# Altium schematic symbol library IntegratedCircuit.SchLib: 91 symbols (part 1 of 2)
Pins are listed as number, name and electrical type; pins without a type are passive.

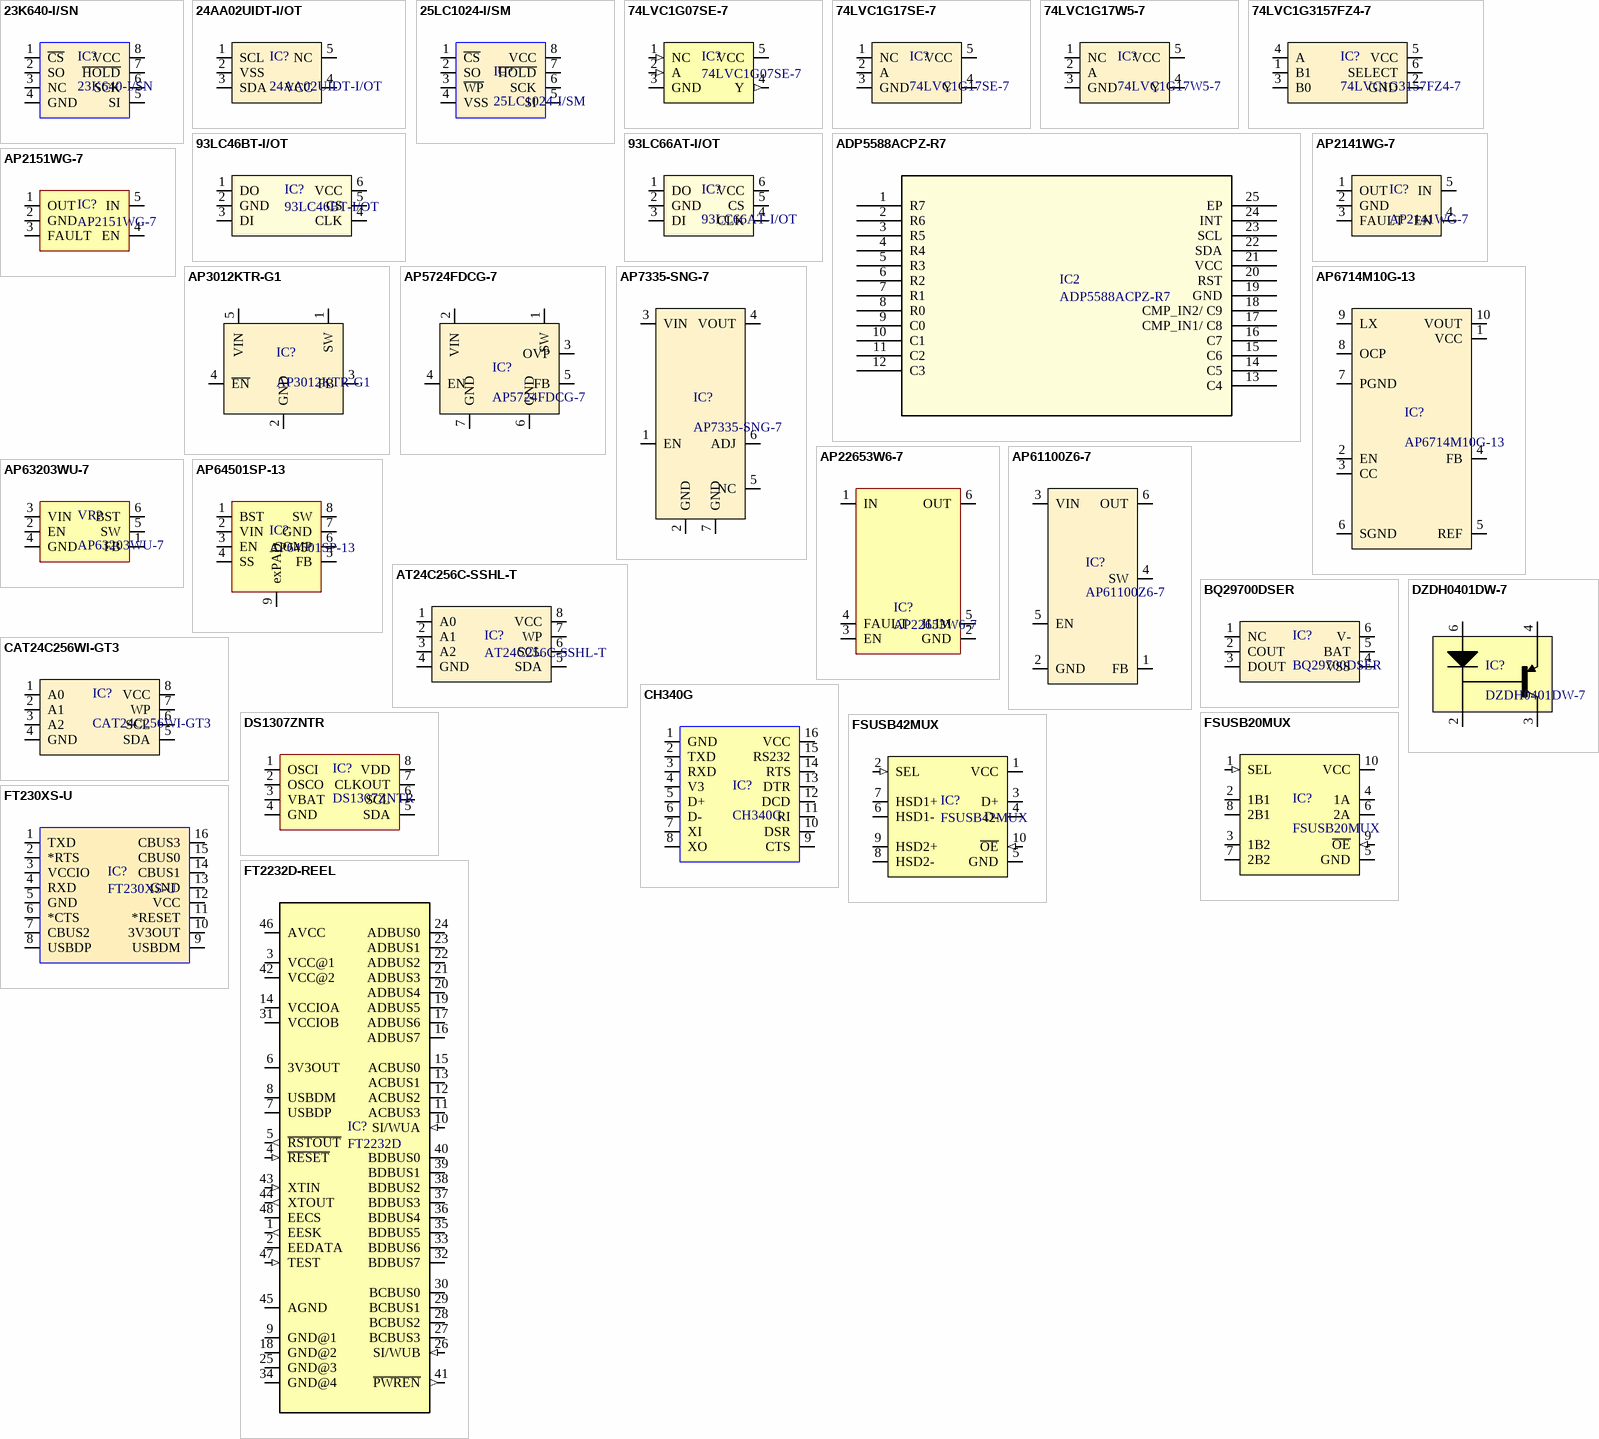
[diagram p0: symbols 23K640-I/SN to FT2232D-REEL]

## 23K640-I/SN
designator IC?
23K640 Series 2.7 V to 3.6 V 64 kbit SPI Bus Low-Power Serial SRAM - SOIC-8; Manufacturer: Microchip; Organization: 8192 x 8; Purpose Of Usage: BASIC; Supplier 1: Digi-Key; Manufacturer Part Number: 23K640-I/SN; RoHS: Yes; Category: INTEGRATED CIRCUITS; Mount: SMD; Case/Package: SOIC; Package Quantity: 100; Lead Free: Lead Free; Supplier Part Number 1: 23K640-I/SN-ND; Sub-Category: MEMORY- RAM; Stock ID: ??
footprint SOIC127P600X175-8N (SOIC, 8-Leads, Body 4.90x3.90mm, Pitch 1.27mm, IPC Medium Density)
pins: 1 ~{CS}, 2 SO, 3 NC, 4 GND, 5 SI, 6 SCK, 7 ~{HOLD}, 8 VCC (power)

## 24AA02UIDT-I/OT
designator IC?
24AA02 Series 2 Kbit (256 x 8) 5.5 V Surface Mount I2C Serial EEPROM - SOT-23-5; Manufacturer: Microchip; Organization: 256X8; Purpose Of Usage: BASIC; Supplier 1: Digi-Key; Manufacturer Part Number: 24AA02UIDT-I/OT; RoHS: Yes; Category: INTEGRATED CIRCUITS; Stock 1: 1978; Case/Package: SOT-23-5; Package Quantity: 3000; Lead Free: Lead Free; Supplier Part Number 1: 24AA02UIDT-I/OTTR-ND; Local Supplier: FUTURE; Mount: SMD; Price 10K: 0.25; Stock ID: ??; Sub-Category: MEMORY - EEPROM
footprint SOT23-5 (SOT23, 6-Leads, Body 2.73x2.80mm, Pitch 0.95mm, IPC Medium Density)
pins: 1 SCL, 2 VSS, 3 SDA, 4 VCC, 5 NC

## 25LC1024-I/SM
designator IC?
EEPROM, SERIAL, 1024KBIT, 20MHZ, 8SOIJ; Manufacturer: Microchip; Purpose Of Usage: BASIC; Supplier 1: Digi-Key; Manufacturer Part Number: 25LC1024-I/SM; RoHS: Yes; Stock 1: 8902; Mount: SMD; Case/Package: SOIC; Package Quantity: 90; Lead Free: Lead Free; Supplier Part Number 1: 25LC1024-I/SM-ND; Category: INTEGRATED CIRCUITS; Sub-Category: MEMORY - EEPROM; Stock ID: ??
footprint SOIJ8-M_MC-M
pins: 1 ~{CS}, 2 SO, 3 ~{WP}, 4 VSS, 5 SI, 6 SCK, 7 ~{HOLD}, 8 VCC

## 74LVC1G07SE-7
designator IC?
Buffer/Driver 1-CH Non-Inverting Open Drain CMOS 5-Pin SOT-353 T/R; Manufacturer: Diodes; Purpose Of Usage: BASIC; Supplier 1: Digi-Key; Supplier Part Number 1: 74LVC1G07SE-7DICT-ND; Manufacturer Part Number: 74LVC1G07SE-7; Stock 1: 16164; RoHS: Yes; Mount: SMD; Case/Package: SOT-353; Package Quantity: 3000; Lead Free: Lead Free; Category: INTEGRATED CIRCUITS; Sub-Category: LOGIC; Stock ID: ??
footprint SOT353
pins: 1 NC (in), 2 A (in), 3 GND (power), 4 Y (out), 5 VCC (power)

## 74LVC1G17SE-7
designator IC?
74LVC Series 5.5 V Surface Mount Single Schmitt Trigger Buffer - SOT-353; Manufacturer: Diodes; Purpose Of Usage: BASIC; Manufacturer Part Number: 74LVC1G17SE-7; RoHS: Yes; Category: INTEGRATED CIRCUITS; Case/Package: SOT-353; Lead Free: Lead Free; Local Supplier: FUTURE; Mount: SMD; Price 10K: 0.05; Stock ID: ??; Sub-Category: LOGIC; Supplier 1: Digi-Key; Supplier Part Number 1: 74LVC1G17SE-7CT-ND
footprint SOT353 (SOTFL, 6-Leads, Body 1.55x1.58mm, Pitch 0.50mm, IPC Medium Density)
pins: 1 NC, 2 A, 3 GND, 4 Y, 5 VCC

## 74LVC1G17W5-7
designator IC?
74LVC Series 1.65 to 5.5V Single Schmitt-Trigger Buffer SMT - SOT-25; Manufacturer: Diodes; Purpose Of Usage: BASIC; Supplier 1: Digi-Key; Manufacturer Part Number: 74LVC1G17W5-7; RoHS: Yes; Category: INTEGRATED CIRCUITS; Stock 1: 117000; Case/Package: SOT-23-5; Package Quantity: 3000; Lead Free: Lead Free; Supplier Part Number 1: 74LVC1G17W5-7TR-ND; Local Supplier: FUTURE; Mount: SMD; Price 10K: 0.05; Stock ID: ??; Sub-Category: LOGIC
footprint SOT23-5 (SOT23, 6-Leads, Body 2.73x2.80mm, Pitch 0.95mm, IPC Medium Density)
pins: 1 NC, 2 A, 3 GND, 4 Y, 5 VCC

## 74LVC1G3157FZ4-7
designator IC?
Analog Switch Single SPDT 6-Pin X2-DFN T/R; Manufacturer: Diodes; Purpose Of Usage: BASIC; Supplier 1: Digi-Key; Manufacturer Part Number: 74LVC1G3157FZ4-7; RoHS: Yes; Category: INTEGRATED CIRCUITS; Stock 1: 130000; Supplier Part Number 1: 74LVC1G3157FZ4-7DITR-ND; Case/Package: UDFN1410-6; Mount: SMD; Stock ID: ??; Sub-Category: ANALOG SWITCH; Lead Free: Lead Free
footprint X2-DFN1410-6 (SON, 6-Leads, Body 1.98x1.98mm, Pitch 0.65mm, Thermal Pad 1.60x0.91mm, IPC Medium Density)
pins: 1 B1, 2 GND, 3 B0, 4 A, 5 VCC, 6 SELECT

## 93LC46BT-I/OT
designator IC?
MICROCHIP - 93LC46BT-I/OT - EEPROM, Microwire, 1 Kbit, 64 x 16bit, Serial Microwire, 3 MHz, SOT-23, 6 Pins; Purpose Of Usage: BASIC; Supplier 1: Digi-Key; Supplier Part Number 1: 93LC46BT-I/OTCT-ND; Manufacturer: Microchip; Manufacturer Part Number: 93LC46BT-I/OT; Stock 1: 3299; RoHS: Yes; Mount: SMD; Case/Package: SOT-23; Package Quantity: 3000; Lead Free: Lead Free; Category: INTEGRATED CIRCUITS; Sub-Category: MEMORY - EEPROM; Stock ID: ??
footprint SOT 23-6
pins: 1 DO, 2 GND, 3 DI, 4 CLK, 5 CS, 6 VCC

## 93LC66AT-I/OT
designator IC?
Microwire Serial EEPROM Family, 2.5Vto 5.5V' 2 MHz, -40°Cto 125°C, SOT-23-6, RoHS; Manufacturer: Microchip; Organization: 512X8; Purpose Of Usage: BASIC; Supplier 1: Digi-Key; Manufacturer Part Number: 93LC66AT-I/OT; RoHS: Yes; Category: INTEGRATED CIRCUITS; Stock 1: 42000; Case/Package: SOT-23; Package Quantity: 3000; Lead Free: Lead Free; Supplier Part Number 1: 93LC66AT-I/OTTR-ND; Mount: SMD; Stock ID: ??; Sub-Category: MEMORY - EEPROM
footprint SOT23-6 (SOT23, 6-Leads, Body 2.73x2.80mm, Pitch 0.95mm, IPC Medium Density)
pins: 1 DO, 2 GND, 3 DI, 4 CLK, 5 CS, 6 VCC

## ADP5588ACPZ-R7
designator IC2
IC KEYPAD SCANNER GPIO PORT EXP; Manufacturer: Analog Devices; Purpose Of Usage: BASIC; Supplier 1: Digi-Key; Manufacturer Part Number: ADP5588ACPZ-R7; Stock 1: 100; RoHS: Yes; Mount: SMD; Case/Package: LFCSP EP; Package Quantity: 1500; Lead Free: Contains Lead; Supplier Part Number 1: ADP5588ACPZ-R7DKR-ND; Category: INTEGRATED CIRCUITS; Sub-Category: KEYPAD READER; Stock ID: ??
footprint CP_24_1
pins: 1 R7, 2 R6, 3 R5, 4 R4, 5 R3, 6 R2, 7 R1, 8 R0, 9 C0, 10 C1, 11 C2, 12 C3, 13 C4, 14 C5, 15 C6, 16 C7, 17 CMP_IN1/ C8, 18 CMP_IN2/ C9, 19 GND, 20 RST, 21 VCC (power), 22 SDA, 23 SCL, 24 INT, 25 EP

## AP2141WG-7
designator IC?
IC PWR SW USB 1CH 0.5A SOT-25-5; Manufacturer: Diodes; Purpose Of Usage: BASIC; Supplier 1: Avnet; Supplier Part Number 1: AP2141WG-7; Manufacturer Part Number: AP2141WG-7; Stock 1: 3000; RoHS: Yes; Mount: SMD; Case/Package: SOT-23-5; Package Quantity: 3000; Lead Free: Lead Free; Category: INTEGRATED CIRCUITS; Sub-Category: POWER SWITCH; Stock ID: ??
footprint SOT23-5
pins: 1 OUT, 2 GND, 3 FAULT, 4 EN, 5 IN

## AP2151WG-7
designator IC?
DIODES INC.         AP2151WG-7             Power Load Switch, Current Limited, Single High Side, Active High, 1 Output, 5.5V, 0.8A, SOT-25-5; Purpose Of Usage: BASIC; Supplier 1: Digi-Key; Manufacturer: Diodes; Manufacturer Part Number: AP2151WG-7; Stock 1: 5836; RoHS: Yes; Mount: SMD; Case/Package: SOT-23-5; Package Quantity: 3000; Lead Free: Lead Free; Category: INTEGRATED CIRCUITS; Sub-Category: POWER SWITCH; Stock ID: ??
footprint SOT23-5
pins: 1 OUT, 2 GND, 3 FAULT, 4 EN, 5 IN

## AP3012KTR-G1
designator IC?
Boost Switching Regulator IC Positive Adjustable 1.25V 1 Output 500mA (Switch) SC-74A, SOT-753; Manufacturer: Diodes; Purpose Of Usage: BASIC; Supplier 1: Digi-Key; Manufacturer Part Number: AP3012KTR-G1; RoHS: Yes; Category: INTEGRATED CIRCUITS; Stock 1: 356500; Case/Package: SOT-23-5; Package Quantity: 3000; Topology: BOOST; Lead Free: Lead Free; Supplier Part Number 1: AP3012KTR-G1DITR-ND; Local Supplier: FUTURE; Mount: SMD; Price 10K: 0.05; Stock ID: ??; Sub-Category: PMIC - DC/DC Switching Regulator
footprint SOT23-5 (SOT23, 6-Leads, Body 2.73x2.80mm, Pitch 0.95mm, IPC Medium Density)
pins: 1 SW, 2 GND, 3 FB, 4 ~{EN}, 5 VIN

## AP5724FDCG-7
designator IC?
AP5724 Series 2.7 to 5.5 V 1.2 MHz Boost SMT White LED Converter - DFN-6; Manufacturer: Diodes; Purpose Of Usage: BASIC; Supplier 1: Mouser; Manufacturer Part Number: AP5724FDCG-7; RoHS: Yes; Category: INTEGRATED CIRCUITS; Stock 1: 11765; Case/Package: DFN EP; Package Quantity: 3000; Lead Free: Lead Free; Supplier Part Number 1: 621-AP5724FDCG-7; Mount: SMD; Stock ID: ??; Sub-Category: PMIC - DC/DC Switching Regulator; Local Supplier: FUTURE; Price 10K: 0.27; Topology: BOOST
footprint U-DFN2020-6 TYPE-C (SON, 6-Leads, Body 1.98x1.98mm, Pitch 0.65mm, Thermal Pad 1.60x0.91mm, IPC Medium Density)
pins: 1 SW, 2 VIN, 3 OVP, 4 EN, 5 FB, 6 GND, 7 GND

## AP6714M10G-13
designator IC?
Conv DC-DC 0.9V to 5.5V Synchronous Step Up Single-Out 1.8V to 5.5V 1.6A 10-Pin MSOP T/R; Manufacturer: Diodes; Topology: BOOST; Purpose Of Usage: BASIC; Supplier 1: Digi-Key; Manufacturer Part Number: AP6714M10G-13; RoHS: Yes; Category: INTEGRATED CIRCUITS; Case/Package: MSOP; Package Quantity: 1; Lead Free: Lead Free; Supplier Part Number 1: AP6714M10GDITR-ND; Local Supplier: FUTURE; Mount: SMD; Price 10K: 0.25; Stock ID: ??; Sub-Category: PMIC - DC/DC Switching Regulator
footprint MSOP-10 (TSOP, 8-Leads, Body 2.95x2.95mm, Pitch 0.65mm, IPC Medium Density)
pins: 1 VCC, 2 EN, 3 CC, 4 FB, 5 REF, 6 SGND, 7 PGND, 8 OCP, 9 LX, 10 VOUT

## AP7335-SNG-7
designator IC?
LDO Regulator Pos 0.8V to 5V 0.3A 6-Pin DFN EP T/R; Manufacturer: Diodes; Purpose Of Usage: BASIC; Supplier 1: Digi-Key; Manufacturer Part Number: AP7335-SNG-7; RoHS: Yes; Category: INTEGRATED CIRCUITS; Case/Package: DFN EP; Package Quantity: 3000; Supplier Part Number 1: AP7335-SNG-7DI-ND; Lead Free: Lead Free; Mount: SMD; Stock ID: ??; Sub-Category: PMIC - LINEAR REGULATOR; Local Supplier: FUTURE; Price 10K: 0.0918; Topology: LDO
footprint U-DFN2020-6 TYPE-C (SON, 6-Leads, Body 1.98x1.98mm, Pitch 0.65mm, Thermal Pad 1.60x0.91mm, IPC Medium Density)
pins: 1 EN, 2 GND, 3 VIN, 4 VOUT, 5 NC, 6 ADJ, 7 GND

## AP22653W6-7
designator IC?
Power Switch/Driver 1:1 P-Channel 2.1A SOT-23-6; Manufacturer: Diodes; Purpose Of Usage: BASIC; Supplier 1: Digi-Key; Manufacturer Part Number: AP22653W6-7; Stock 1: 12659; RoHS: No; Supplier Part Number 1: 31-AP22653W6-7CT-ND; Category: INTEGRATED CIRCUITS; Sub-Category: POWER SWITCH; Mount: SMD; Case/Package: SOT-23-6; Lead Free: Lead Free; Stock ID: ??
footprint SOT23-6 (SOT23, 6-Leads, Body 2.73x2.80mm, Pitch 0.95mm, IPC Medium Density)
pins: 1 IN, 2 GND, 3 EN, 4 FAULT, 5 ILIM, 6 OUT

## AP61100Z6-7
designator IC?
Converter DC to DC Synchronous Buck 0.8V to 7V 3A 6-Pin SOT-563 T/R; Manufacturer: Diodes; Purpose Of Usage: BASIC; Supplier 1: Digi-Key; Manufacturer Part Number: AP61100Z6-7; RoHS: Yes; Category: INTEGRATED CIRCUITS; Stock 1: 237789; Supplier Part Number 1: 31-AP61100Z6-7DKR-ND; Case/Package: SOT563; Lead Free: Lead Free; Mount: SMD; Package Quantity: 3000; Stock ID: ??; Sub-Category: PMIC - DC/DC Switching Regulator; Local Supplier: FUTURE; Price 10K: 0.07; Topology: BUCK
footprint SOT563 (SOTFL, 6-Leads, Body 1.55x1.58mm, Pitch 0.50mm, IPC Medium Density)
pins: 1 FB, 2 GND, 3 VIN, 4 SW, 5 EN, 6 OUT

## AP63203WU-7
designator VR?
Manufacturer: Diodes; Purpose Of Usage: BASIC; Topology: BUCK; Supplier 1: Digi-Key; Manufacturer Part Number: AP63203WU-7; Stock 1: 2397; RoHS: No; Supplier Part Number 1: AP63203WU-7DICT-ND; Category: INTEGRATED CIRCUITS; Mount: SMD; Sub-Category: PMIC - DC/DC Switching Regulator; Case/Package: TSOT-26; Lead Free: Lead Free; Stock ID: ??
footprint TSOT26
pins: 1 FB, 2 EN, 3 VIN, 4 GND, 5 SW, 6 BST

## AP64501SP-13
designator IC?
Buck Switching Regulator IC Positive Adjustable 0.8V 1 Output 5A 8-SOIC (0.154", 3.90mm Width) Exposed Pad; Manufacturer: Diodes; Purpose Of Usage: BASIC; Supplier 1: Digi-Key; Manufacturer Part Number: AP64501SP-13; Stock 1: 17836; RoHS: No; Category: INTEGRATED CIRCUITS; Supplier Part Number 1: 31-AP64501SP-13CT-ND; Mount: SMD; Sub-Category: PMIC - DC/DC Switching Regulator; Case/Package: SO-8EP; Lead Free: Lead Free; Stock ID: ??; Topology: BUCK
footprint SO-8EP
pins: 1 BST, 2 VIN, 3 EN, 4 SS, 5 FB, 6 COMP, 7 GND, 8 SW, 9 exPAD

## AT24C256C-SSHL-T
designator IC?
EEPROM Serial-2Wire 256K-bit 32K x 8 1.8V/2.5V/3.3V/5V 8-Pin SOIC T/R; Manufacturer: Microchip / Atmel; Purpose Of Usage: BASIC; Supplier 1: Digi-Key; Manufacturer Part Number: AT24C256C-SSHL-T; Stock 1: 15972; RoHS: Yes; Mount: SMD; Case/Package: SOIC; Package Quantity: 1; Lead Free: Lead Free; Category: INTEGRATED CIRCUITS; Supplier Part Number 1: AT24C256C-SSHL-TCT-ND; Sub-Category: MEMORY - EEPROM; Stock ID: ??; LCSC Part Number: C6482
footprint SOIC127P600X175-8N (SOIC, 8-Leads, Body 4.90x3.90mm, Pitch 1.27mm, IPC Medium Density)
pins: 1 A0, 2 A1, 3 A2, 4 GND, 5 SDA, 6 SCL, 7 WP, 8 VCC

## BQ29700DSER
designator IC?
Li-Ion/Li Polymer Advanced Single-Cell Battery Protector IC Family 6-WSON -40 to 85; Manufacturer: Texas Instruments; Purpose Of Usage: BASIC; Supplier 1: Digi-Key; Manufacturer Part Number: BQ29700DSER; RoHS: Yes; Category: INTEGRATED CIRCUITS; Stock 1: 64646; Case/Package: WFDFN; Package Quantity: 3000; Lead Free: Lead Free; Supplier Part Number 1: 296-43985-1-ND; Local Supplier: TEXAS INS; Mount: SMD; Price 10K: 0.25; Stock ID: ??; Sub-Category: BATTERY MANAGEMENT
footprint WSON-6 (SON, 6-Leads, Body 1.98x1.98mm, Pitch 0.65mm, Thermal Pad 1.60x0.91mm, IPC Medium Density)
pins: 1 NC, 2 COUT, 3 DOUT, 4 VSS, 5 BAT, 6 V-

## CAT24C256WI-GT3
designator IC?
IC EEPROM 256KBIT 400KHZ 8SOIC; Manufacturer: ON Semiconductor; Purpose Of Usage: BASIC; Manufacturer Part Number: CAT24C256WI-GT3; RoHS: Yes; Category: INTEGRATED CIRCUITS; Case/Package: SOIC; LCSC Part Number: C79987; Lead Free: Lead Free; Local Supplier: FUTURE; Mount: SMD; Price 10K: 0.75; Stock ID: ??; Sub-Category: MEMORY - EEPROM; Supplier 1: Digi-Key; Supplier Part Number 1: CAT24C256WI-GT3OSCT-ND
footprint SOIC127P600X175-8N (SOIC, 8-Leads, Body 4.90x3.90mm, Pitch 1.27mm, IPC Medium Density)
pins: 1 A0, 2 A1, 3 A2, 4 GND, 5 SDA, 6 SCL, 7 WP, 8 VCC

## CH340G
designator IC?
IC-340 USB INTERFACE SO16; Manufacturer: WCH; Purpose Of Usage: BASIC; Category: INTEGRATED CIRCUITS; Sub-Category: USB to UART; Case/Package: SOIC; Mount: SMD; RoHS: NO; Lead Free: Contains Lead; Manufacturer Part Number: CH340G; Supplier 1: Özdisan; Supplier Part Number 1: CH340G; Stock ID: ??
footprint SOIC 16 (SOIC, 16-Leads, Body 9.90x3.90mm, Pitch 1.27mm, IPC Medium Density)
pins: 1 GND, 2 TXD, 3 RXD, 4 V3, 5 D+, 6 D-, 7 XI, 8 XO, 9 CTS, 10 DSR, 11 RI, 12 DCD, 13 DTR, 14 RTS, 15 RS232, 16 VCC

## DS1307ZNTR
designator IC?
IC RTC SERIAL 512K IND 8-SOIC; Manufacturer: Maxim; Purpose Of Usage: BASIC; Supplier 1: Digi-Key; Manufacturer Part Number: DS1307ZNTR; Stock 1: 0; RoHS: Yes; Mount: SMD; Case/Package: SOIC; Package Quantity: 2500; Lead Free: Lead Free; Supplier Part Number 1: DS1307ZN+T&R-ND; Category: INTEGRATED CIRCUITS; Sub-Category: REAL TIME CLOCK; Stock ID: ??
footprint SOIC127P600X175-8N (SOIC, 8-Leads, Body 4.90x3.90mm, Pitch 1.27mm, IPC Medium Density)
pins: 1 OSCI, 2 OSCO, 3 VBAT, 4 GND, 5 SDA, 6 SCL, 7 CLKOUT, 8 VDD

## DZDH0401DW-7
designator IC?
DZDH0401 Series 40 V 300 mA Surface Mount Ideal Diode Controller - SOT-363; Manufacturer: Diodes Inc.; Purpose Of Usage: BASIC; Supplier 1: Digi-Key; Manufacturer Part Number: DZDH0401DW-7; Stock 1: 856; Supplier Part Number 1: 31-DZDH0401DW-7DKR-ND; Case/Package: SOT-363; Category: INTEGRATED CIRCUITS; Lead Free: Lead Free; Local Supplier: FUTURE; Mount: SMD; Stock ID: ??; Sub-Category: OR-ING IDEAL DIODE CONTROLLER
footprint SOT363 (SOTFL, 6-Leads, Body 1.55x1.58mm, Pitch 0.50mm, IPC Medium Density)
pins: 2 K, 3 C, 4 E, 6 A

## FSUSB20MUX
designator IC?
FAIRCHILD SEMICONDUCTOR         FSUSB20MUX             USB Interface, Switch, USB 2.0, 3 V, 3.6 V, MSOP, 10 Pins; Manufacturer: ON Semiconductor / Fairchild; Purpose Of Usage: BASIC; Supplier 1: Digi-Key; Manufacturer Part Number: FSUSB20MUX; Stock 1: 7192; RoHS: Yes; Mount: SMD; Case/Package: MSOP; Package Quantity: 4000; Lead Free: Lead Free; Supplier Part Number 1: FSUSB20MUXCT-ND; Category: INTEGRATED CIRCUITS; Sub-Category: USB SWITCH; Stock ID: ??
footprint MSOP-10N
pins: 1 SEL (in), 2 1B1 (io), 3 1B2 (io), 4 1A (io), 5 GND (power), 6 2A (io), 7 2B2 (io), 8 2B1 (io), 9 ~{OE} (in), 10 VCC (power)

## FSUSB42MUX
designator IC?
ON SEMICONDUCTOR - FSUSB42MUX - Analogue Switch, UART, 2 Channels, DPDT, 4.5 ohm, 2.4V to 3.6V, MSOP, 10 Pins; Manufacturer: ON Semiconductor / Fairchild; Purpose Of Usage: BASIC; Supplier 1: Digi-Key; Manufacturer Part Number: FSUSB42MUX; Stock 1: 14606; RoHS: Yes; Mount: SMD; Case/Package: MSOP; Package Quantity: 1; Lead Free: Lead Free; Supplier Part Number 1: FSUSB42MUXCT-ND; Category: INTEGRATED CIRCUITS; Sub-Category: USB SWITCH; Stock ID: ??
footprint MSOP-10N
pins: 1 VCC (power), 2 SEL (in), 3 D+ (io), 4 D- (io), 5 GND (power), 6 HSD1- (io), 7 HSD1+ (io), 8 HSD2- (io), 9 HSD2+ (io), 10 ~{OE} (in)

## FT230XS-U
designator IC?
USB Interface IC USB to Basic Serial UART IC SSOP-16; Manufacturer: FTDI; Supplier 1: Digi-Key; Manufacturer Part Number: FT230XS-U; Stock 1: 4799; RoHS: Yes; Case/Package: SSOP; Package Quantity: 100; Lead Free: Lead Free; Category: INTEGRATED CIRCUITS; Supplier Part Number 1: 768-1154-5-ND; Sub-Category: USB to UART; Mount: SMD; Stock ID: ??; Purpose Of Usage: BASIC
footprint SSOP-16
pins: 1 TXD, 2 *RTS, 3 VCCIO, 4 RXD, 5 GND, 6 *CTS, 7 CBUS2, 8 USBDP, 9 USBDM, 10 3V3OUT, 11 *RESET, 12 VCC, 13 GND, 14 CBUS1, 15 CBUS0, 16 CBUS3

## FT2232D-REEL
designator IC?, comment FT2232D
USB-to-UART 2-CH 3.3V/5V 48-Pin LQFP; Manufacturer: FTDI; Manufacturer Part Number: FT2232D-REEL; Purpose Of Usage: BASIC; Supplier 1: Digi-Key; Stock 1: 17137; RoHS: Yes; Mount: SMD; Case/Package: LQFP; Package Quantity: 1000; Lead Free: Lead Free; Category: INTEGRATED CIRCUITS; Supplier Part Number 1: 768-1010-1-ND; Sub-Category: USB to UART; Stock ID: ??
footprint LQFP48
pins: 1 EESK (out), 2 EEDATA (io), 3 VCC@1 (power), 4 ~{RESET} (in), 5 ~{RSTOUT} (out), 6 3V3OUT (power), 7 USBDP (io), 8 USBDM (io), 9 GND@1 (power), 10 SI/WUA (in), 11 ACBUS3 (io), 12 ACBUS2 (io), 13 ACBUS1 (io), 14 VCCIOA (power), 15 ACBUS0 (io), 16 ADBUS7 (io), 17 ADBUS6 (io), 18 GND@2 (power), 19 ADBUS5 (io), 20 ADBUS4 (io), 21 ADBUS3 (io), 22 ADBUS2 (io), 23 ADBUS1 (io), 24 ADBUS0 (io), 25 GND@3 (power), 26 SI/WUB (in), 27 BCBUS3 (io), 28 BCBUS2 (io), 29 BCBUS1 (io), 30 BCBUS0 (io), 31 VCCIOB (power), 32 BDBUS7 (io), 33 BDBUS6 (io), 34 GND@4 (power), 35 BDBUS5 (io), 36 BDBUS4 (io), 37 BDBUS3 (io), 38 BDBUS2 (io), 39 BDBUS1 (io), 40 BDBUS0 (io), 41 ~{PWREN} (out), 42 VCC@2 (power), 43 XTIN (in), 44 XTOUT (out), 45 AGND (power), 46 AVCC (power), 47 TEST (in), 48 EECS (io)

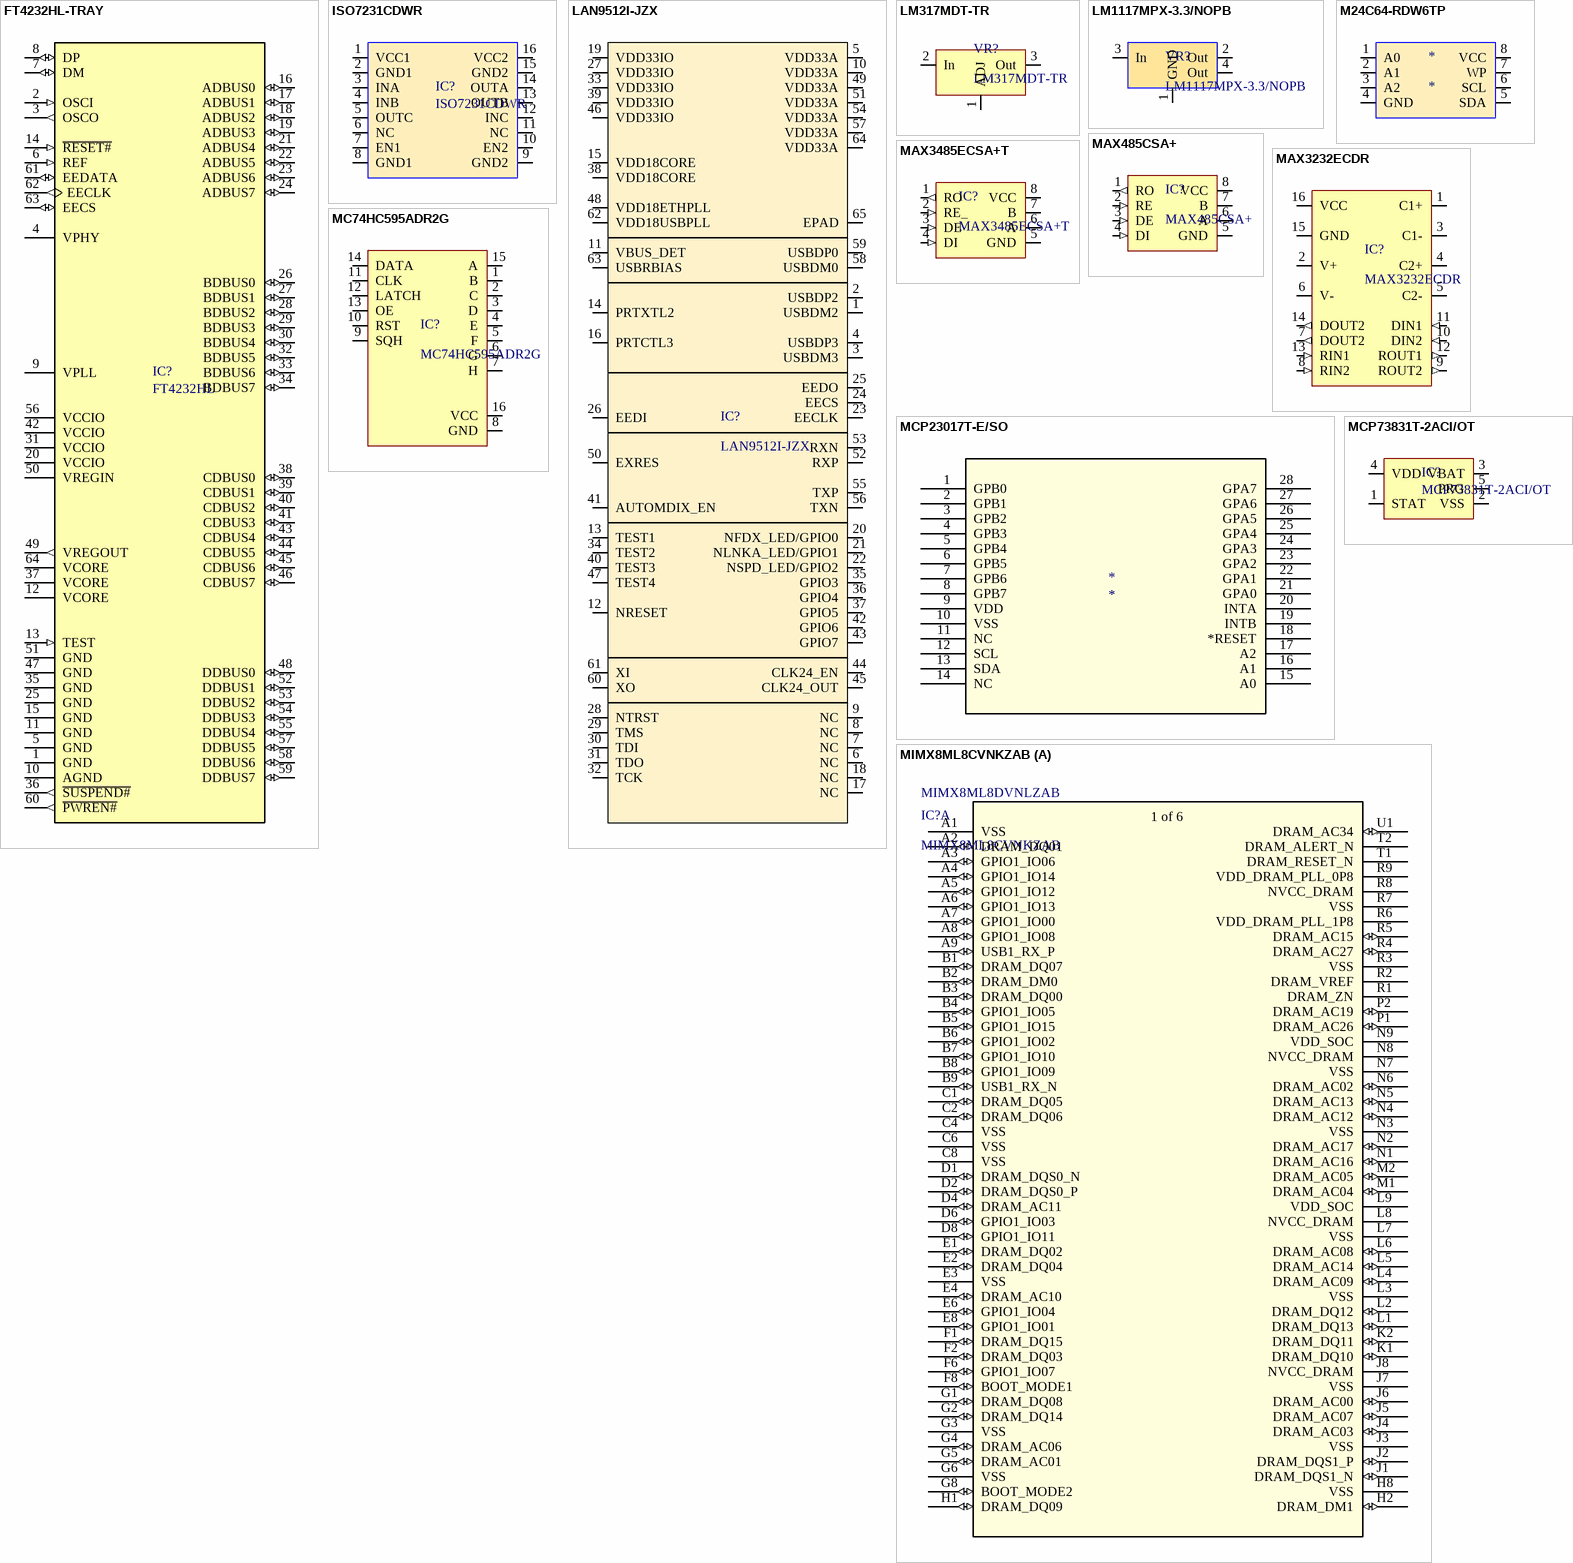
[diagram p1: symbols FT4232HL-TRAY to MIMX8ML8CVNKZAB]

## FT4232HL-TRAY
designator IC?, comment FT4232HL
IC USB HS QUAD UART/SYNC 64-LQFP; Manufacturer: FTDI; Manufacturer Part Number: FT4232HL-TRAY; Purpose Of Usage: BASIC; Supplier 1: Digi-Key; Stock 1: 1575; RoHS: Yes; Mount: SMD; Case/Package: LQFP; Package Quantity: 160; Supplier Part Number 1: 768-1309-ND; Category: INTEGRATED CIRCUITS; Sub-Category: USB to UART; Lead Free: Lead Free; Stock ID: ??
footprint QFP50P1200X1200X160-64N
pins: 1 GND (power), 2 OSCI (in), 3 OSCO (out), 4 VPHY (power), 5 GND (power), 6 REF (in), 7 DM (io), 8 DP (io), 9 VPLL (power), 10 AGND (power), 11 GND (power), 12 VCORE (power), 13 TEST (in), 14 ~{RESET#} (in), 15 GND (power), 16 ADBUS0 (io), 17 ADBUS1 (io), 18 ADBUS2 (io), 19 ADBUS3 (io), 20 VCCIO (power), 21 ADBUS4 (io), 22 ADBUS5 (io), 23 ADBUS6 (io), 24 ADBUS7 (io), 25 GND (power), 26 BDBUS0 (io), 27 BDBUS1 (io), 28 BDBUS2 (io), 29 BDBUS3 (io), 30 BDBUS4 (io), 31 VCCIO (power), 32 BDBUS5 (io), 33 BDBUS6 (io), 34 BDBUS7 (io), 35 GND (power), 36 ~{SUSPEND#} (out), 37 VCORE (power), 38 CDBUS0 (io), 39 CDBUS1 (io), 40 CDBUS2 (io), 41 CDBUS3 (io), 42 VCCIO (power), 43 CDBUS4 (io), 44 CDBUS5 (io), 45 CDBUS6 (io), 46 CDBUS7 (io), 47 GND (power), 48 DDBUS0 (io), 49 VREGOUT (out), 50 VREGIN (power), 51 GND (power), 52 DDBUS1 (io), 53 DDBUS2 (io), 54 DDBUS3 (io), 55 DDBUS4 (io), 56 VCCIO (power), 57 DDBUS5 (io), 58 DDBUS6 (io), 59 DDBUS7 (io), 60 ~{PWREN#} (out), 61 EEDATA (io), 62 EECLK (out), 63 EECS (io), 64 VCORE (power)

## ISO7231CDWR
designator IC?
Digital Isolator Logic 3-CH 25Mbps 16-Pin SOIC T/R; Manufacturer: Texas Instruments; Purpose Of Usage: BASIC; Supplier 1: Digi-Key; Manufacturer Part Number: ISO7231CDWR; Stock 1: 1295; RoHS: Yes; Case/Package: SOIC; Package Quantity: 2000; Lead Free: Lead Free; Supplier Part Number 1: 296-38966-1-ND; Category: INTEGRATED CIRCUITS; Mount: SMD; Sub-Category: ISOLATOR; Stock ID: ??
footprint DW16
pins: 1 VCC1, 2 GND1, 3 INA, 4 INB, 5 OUTC, 6 NC, 7 EN1, 8 GND1, 9 GND2, 10 EN2, 11 NC, 12 INC, 13 OUTB, 14 OUTA, 15 GND2, 16 VCC2

## LAN9512I-JZX
designator IC?
Microchip LAN9512I-JZX; Ethernet Controller 10/100 Mbits/s; 1.8V; 3.3V; 64-Pin QFN; Purpose Of Usage: BASIC; Supplier 1: Digi-Key; Manufacturer: Microchip; Manufacturer Part Number: LAN9512I-JZX; RoHS: Yes; Category: INTEGRATED CIRCUITS; Stock 1: 1672; Case/Package: QFN; Package Quantity: 260; Lead Free: Lead Free; Supplier Part Number 1: LAN9512I-JZX-ND; Local Supplier: AVNET-EBV; Mount: SMD; Price 10K: 5; Stock ID: ??; Sub-Category: ETHERNET INTERFACE ICs
footprint QFN64_9x9MC_MCH-M
pins: 1 USBDM2, 2 USBDP2, 3 USBDM3, 4 USBDP3, 5 VDD33A, 6 NC, 7 NC, 8 NC, 9 NC, 10 VDD33A, 11 VBUS_DET, 12 NRESET, 13 TEST1, 14 PRTXTL2, 15 VDD18CORE, 16 PRTCTL3, 17 NC, 18 NC, 19 VDD33IO, 20 NFDX_LED/GPIO0, 21 NLNKA_LED/GPIO1, 22 NSPD_LED/GPIO2, 23 EECLK, 24 EECS, 25 EEDO, 26 EEDI, 27 VDD33IO, 28 NTRST, 29 TMS, 30 TDI, 31 TDO, 32 TCK, 33 VDD33IO, 34 TEST2, 35 GPIO3, 36 GPIO4, 37 GPIO5, 38 VDD18CORE, 39 VDD33IO, 40 TEST3, 41 AUTOMDIX_EN, 42 GPIO6, 43 GPIO7, 44 CLK24_EN, 45 CLK24_OUT, 46 VDD33IO, 47 TEST4, 48 VDD18ETHPLL, 49 VDD33A, 50 EXRES, 51 VDD33A, 52 RXP, 53 RXN, 54 VDD33A, 55 TXP, 56 TXN, 57 VDD33A, 58 USBDM0, 59 USBDP0, 60 XO, 61 XI, 62 VDD18USBPLL, 63 USBRBIAS, 64 VDD33A, 65 EPAD

## LM317MDT-TR
designator VR?
STMICROELECTRONICS - LM317MDT-TR - ADJUSTABLE LINEAR REGULATOR, 1.2V TO 37V, DPAK-3; Purpose Of Usage: BASIC; Topology: LDO; Supplier 1: Digi-Key; Manufacturer: STMicroelectronics; Manufacturer Part Number: LM317MDT-TR; Stock 1: 89593; RoHS: Yes; Mount: SMD; Case/Package: TO-252; Package Quantity: 1; Lead Free: Lead Free; Supplier Part Number 1: 497-1574-1-ND; Category: INTEGRATED CIRCUITS; Sub-Category: PMIC - LINEAR REGULATOR; Stock ID: ??
footprint DPAK
pins: 1 ADJ, 2 In, 3 Out

## LM1117MPX-3.3/NOPB
designator VR?
TEXAS INSTRUMENTS   LM1117MPX-3.3/NOPB.   LINEAR REG, FIX, 3.3V, 800MA, SOT-223-4, FULL REEL; Purpose Of Usage: BASIC; Topology: LDO; Supplier 1: Digi-Key; Manufacturer: Texas Instruments; Manufacturer Part Number: LM1117MPX-3.3/NOPB; RoHS: Yes; Stock 1: 74620; Mount: SMD; Case/Package: SOT-223; Lead Free: Lead Free; Category: INTEGRATED CIRCUITS; Supplier Part Number 1: LM1117MPX-3.3/NOPBCT-ND; Sub-Category: PMIC - VOLTAGE REFERANCE; Stock ID: ??
footprint SOT223-3
pins: 1 GND, 2 Out, 3 In, 4 Out

## M24C64-RDW6TP
designator *
IC EEPROM 64KBIT 400KHZ 8TSSOP; Manufacturer: STMicroelectronics; Manufacturer Part Number: M24C64-RDW6TP; Purpose Of Usage: BASIC; RoHS: Yes; Category: INTEGRATED CIRCUITS; Supplier 1: Digi-Key; Supplier Part Number 1: 497-8647-1-ND; Case/Package: SOIC; Lead Free: Lead Free; Local Supplier: FUTURE; Mount: SMD; Stock ID: ??; Sub-Category: MEMORY - EEPROM
pins: 1 A0, 2 A1, 3 A2, 4 GND, 5 SDA, 6 SCL, 7 WP, 8 VCC

## MAX485CSA+
designator IC?
IC TXRX RS485/RS422 LOWPWR 8SOIC; Manufacturer: Maxim; Purpose Of Usage: BASIC; Supplier 1: Digi-Key; Manufacturer Part Number: MAX485CSA+; RoHS: Yes; Stock 1: 4088; Mount: SMD; Case/Package: SOIC; Package Quantity: 100; Lead Free: Lead Free; Supplier Part Number 1: MAX485CSA+-ND; Category: INTEGRATED CIRCUITS; Sub-Category: RS485 DRIVER; Stock ID: ??
footprint SOIC127P600X175-8N (SOIC, 8-Leads, Body 4.90x3.90mm, Pitch 1.27mm, IPC Medium Density)
pins: 1 RO (out), 2 RE (in), 3 DE (in), 4 DI (in), 5 GND (power), 6 A (io), 7 B (io), 8 VCC (power)

## MAX3232ECDR
designator IC?
IC RS232 3V5.5V 15KVESD 16-SOIC; Manufacturer: Texas Instruments; Purpose Of Usage: BASIC; Supplier 1: Digi-Key; Supplier Part Number 1: 296-19851-1-ND; Manufacturer Part Number: MAX3232ECDR; RoHS: Yes; Stock 1: 15857; Mount: SMD; Case/Package: SOIC; Package Quantity: 1; Lead Free: Lead Free; Category: INTEGRATED CIRCUITS; Sub-Category: RS232 to TTL; Stock ID: ??
footprint SO16
pins: 1 C1+, 2 V+, 3 C1-, 4 C2+, 5 C2-, 6 V-, 7 DOUT2 (out), 8 RIN2 (in), 9 ROUT2 (out), 10 DIN2 (in), 11 DIN1 (in), 12 ROUT1 (out), 13 RIN1 (in), 14 DOUT2 (out), 15 GND, 16 VCC

## MAX3485ECSA+T
designator IC?
IC TXRX RS485/422 10MBPS 8SOIC; Manufacturer: Maxim; Purpose Of Usage: BASIC; Supplier 1: Digi-Key; Supplier Part Number 1: MAX3485ECSA+CT-ND; Manufacturer Part Number: MAX3485ECSA+T; RoHS: Yes; Stock 1: 2261; Mount: SMD; Case/Package: SOIC; Package Quantity: 2500; Category: INTEGRATED CIRCUITS; Sub-Category: RS485 DRIVER; Lead Free: Lead Free; Stock ID: ??
footprint SOIC127P600X175-8N (SOIC, 8-Leads, Body 4.90x3.90mm, Pitch 1.27mm, IPC Medium Density)
pins: 1 RO (out), 2 RE_ (in), 3 DE (in), 4 DI (in), 5 GND (power), 6 A (io), 7 B (io), 8 VCC (power)

## MC74HC595ADR2G
designator IC?
ON SEMICONDUCTOR - MC74HC595ADR2G - 8 BIT SIPO/SISO SHIFT REGISTER SOIC16; Purpose Of Usage: BASIC; Supplier 1: Digi-Key; Manufacturer: ON Semiconductor; Manufacturer Part Number: MC74HC595ADR2G; Stock 1: 804; RoHS: Yes; Mount: SMD; Case/Package: SOIC; Package Quantity: 2500; Lead Free: Lead Free; Category: INTEGRATED CIRCUITS; Supplier Part Number 1: MC74HC595ADR2GOSCT-ND; Sub-Category: LOGIC; Stock ID: ??
footprint SO16
pins: 1 B, 2 C, 3 D, 4 E, 5 F, 6 G, 7 H, 8 GND, 9 SQH, 10 RST, 11 CLK, 12 LATCH, 13 OE, 14 DATA, 15 A, 16 VCC

## MCP23017T-E/SO
designator *
IC I/O EXPANDER I2C 16B 28SOIC; Manufacturer: Microchip; Manufacturer Part Number: MCP23017T-E/SO; Purpose Of Usage: BASIC; Supplier 1: Digi-Key; Stock 1: 9970; RoHS: Yes; Case/Package: SOIC; Package Quantity: 1600; Lead Free: Lead Free; Supplier Part Number 1: MCP23017T-E/SOCT-ND; Category: INTEGRATED CIRCUITS; Sub-Category: PORT EXPANDER; Mount: SMD; Stock ID: ??
footprint SOIC28-W_MC
pins: 1 GPB0, 2 GPB1, 3 GPB2, 4 GPB3, 5 GPB4, 6 GPB5, 7 GPB6, 8 GPB7, 9 VDD, 10 VSS, 11 NC, 12 SCL, 13 SDA, 14 NC, 15 A0, 16 A1, 17 A2, 18 *RESET, 19 INTB, 20 INTA, 21 GPA0, 22 GPA1, 23 GPA2, 24 GPA3, 25 GPA4, 26 GPA5, 27 GPA6, 28 GPA7

## MCP73831T-2ACI/OT
designator IC?
MCP73831 Series Single-Cell Li-Ion/Li-Polymer Battery Charge Controller SOT-23-5; Manufacturer: Microchip; Purpose Of Usage: BASIC; Topology: CC-CV; Supplier 1: Digi-Key; Manufacturer Part Number: MCP73831T-2ACI/OT; Stock 1: 24984; RoHS: Yes; Mount: SMD; Case/Package: SOT-23; Lead Free: Lead Free; Category: INTEGRATED CIRCUITS; Supplier Part Number 1: MCP73831T-2ACI/OTCT-ND; Sub-Category: PMIC - Battery Charger; Stock ID: ??
footprint SOT-23-5
pins: 1 STAT, 2 VSS, 3 VBAT, 4 VDD, 5 PRG

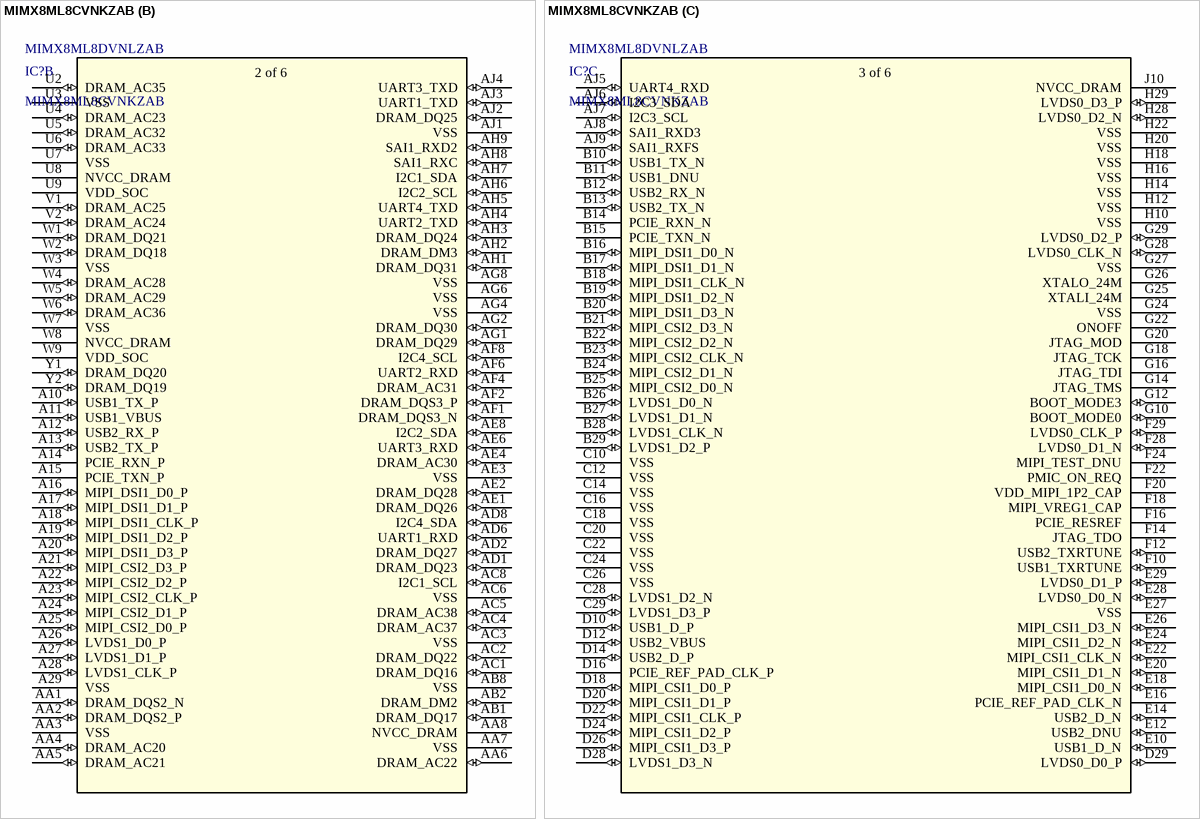
[diagram p2: symbol MIMX8ML8CVNKZAB]

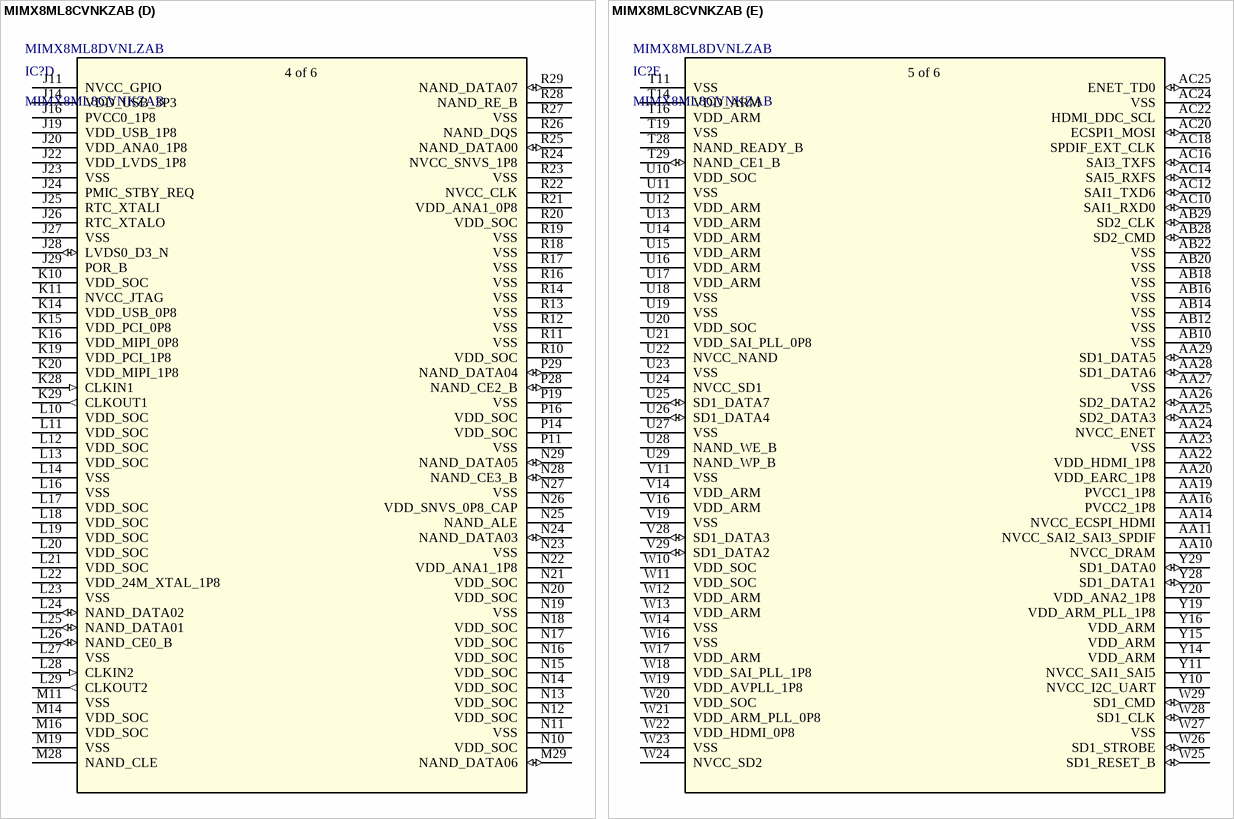
[diagram p3: symbol MIMX8ML8CVNKZAB]

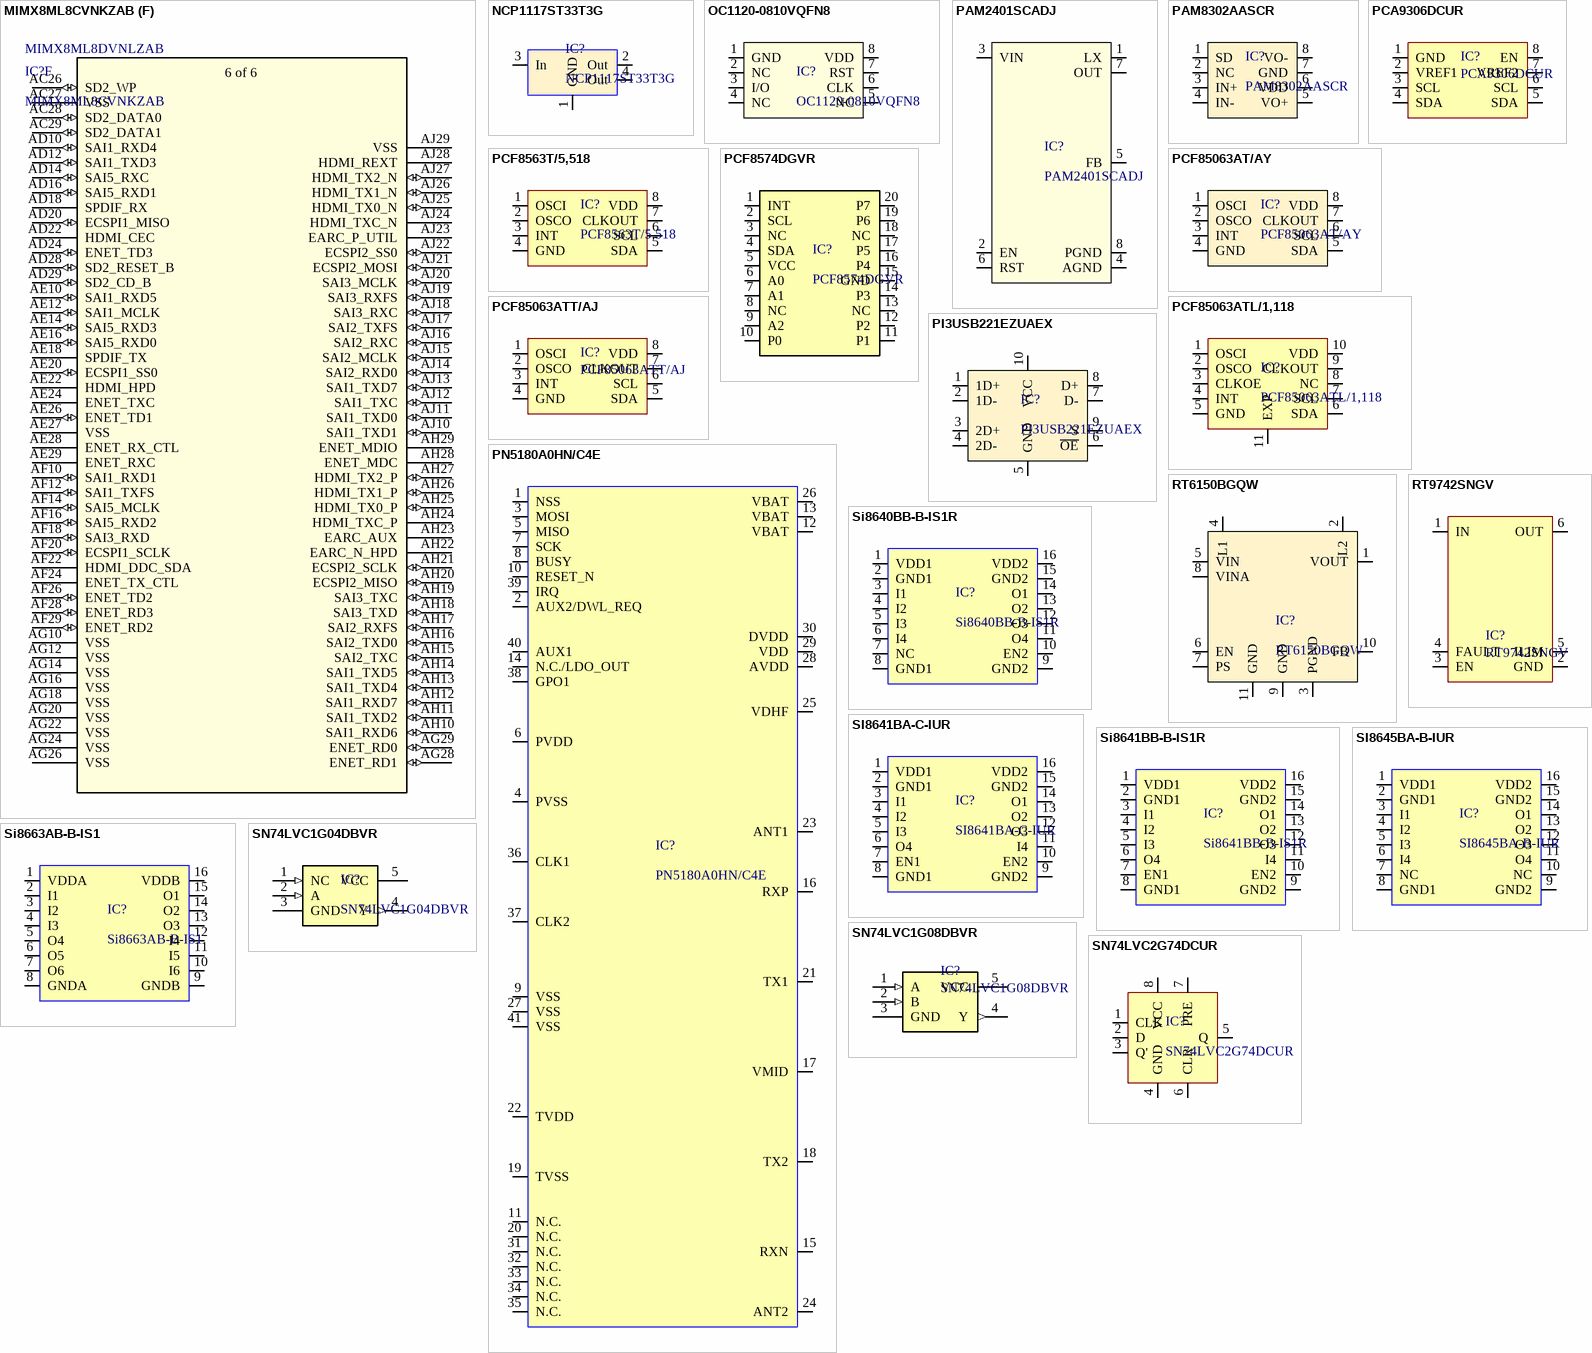
[diagram p4: symbols MIMX8ML8CVNKZAB to SN74LVC2G74DCUR]

## MIMX8ML8CVNKZAB
designator IC?  Supplier Part Number 1: MIMX8ML8DVNLZAB
i.MX 8M Plus Quad / Tray, Bakeable, Multiple in Drypack RoHS Compliant: Yes; Manufacturer: NXP Semiconductors; Purpose Of Usage: BASIC; Supplier 1: Avnet; Manufacturer Part Number: MIMX8ML8DVNLZAB; Category: INTEGRATED CIRCUITS; Sub-Category: MPU; Mount: SMD; RoHS: Yes; Case/Package: BGA; Lead Free: Lead Free; Stock ID: ??
footprint LFBGA548_SOT2047-1_NXP
part A pins: A1 VSS, A2 DRAM_DQ01 (io), A3 GPIO1_IO06 (io), A4 GPIO1_IO14 (io), A5 GPIO1_IO12 (io), A6 GPIO1_IO13 (io), A7 GPIO1_IO00 (io), A8 GPIO1_IO08 (io), A9 USB1_RX_P (io), B1 DRAM_DQ07 (io), B2 DRAM_DM0 (io), B3 DRAM_DQ00 (io), B4 GPIO1_IO05 (io), B5 GPIO1_IO15 (io), B6 GPIO1_IO02 (io), B7 GPIO1_IO10 (io), B8 GPIO1_IO09 (io), B9 USB1_RX_N (io), C1 DRAM_DQ05 (io), C2 DRAM_DQ06 (io), C4 VSS, C6 VSS, C8 VSS, D1 DRAM_DQS0_N (io), D2 DRAM_DQS0_P (io), D4 DRAM_AC11 (io), D6 GPIO1_IO03 (io), D8 GPIO1_IO11 (io), E1 DRAM_DQ02 (io), E2 DRAM_DQ04 (io), E3 VSS, E4 DRAM_AC10 (io), E6 GPIO1_IO04 (io), E8 GPIO1_IO01 (io), F1 DRAM_DQ15 (io), F2 DRAM_DQ03 (io), F6 GPIO1_IO07 (io), F8 BOOT_MODE1 (io), G1 DRAM_DQ08 (io), G2 DRAM_DQ14 (io), G3 VSS, G4 DRAM_AC06 (io), G5 DRAM_AC01 (io), G6 VSS, G8 BOOT_MODE2 (io), H1 DRAM_DQ09 (io), H2 DRAM_DM1 (io), H8 VSS, J1 DRAM_DQS1_N (io), J2 DRAM_DQS1_P (io), J3 VSS, J4 DRAM_AC03 (io), J5 DRAM_AC07 (io), J6 DRAM_AC00 (io), J7 VSS, J8 NVCC_DRAM (power), K1 DRAM_DQ10 (io), K2 DRAM_DQ11 (io), L1 DRAM_DQ13 (io), L2 DRAM_DQ12 (io), L3 VSS, L4 DRAM_AC09 (io), L5 DRAM_AC14 (io), L6 DRAM_AC08 (io), L7 VSS, L8 NVCC_DRAM (power), L9 VDD_SOC (power), M1 DRAM_AC04 (io), M2 DRAM_AC05 (io), N1 DRAM_AC16 (io), N2 DRAM_AC17 (io), N3 VSS, N4 DRAM_AC12 (io), N5 DRAM_AC13 (io), N6 DRAM_AC02 (io), N7 VSS, N8 NVCC_DRAM (power), N9 VDD_SOC (power), P1 DRAM_AC26 (io), P2 DRAM_AC19 (io), R1 DRAM_ZN, R2 DRAM_VREF (power), R3 VSS, R4 DRAM_AC27 (io), R5 DRAM_AC15 (io), R6 VDD_DRAM_PLL_1P8 (power), R7 VSS, R8 NVCC_DRAM (power), R9 VDD_DRAM_PLL_0P8 (power), T1 DRAM_RESET_N, T2 DRAM_ALERT_N, U1 DRAM_AC34 (io)
part B pins: A10 USB1_TX_P (io), A11 USB1_VBUS (io), A12 USB2_RX_P (io), A13 USB2_TX_P (io), A14 PCIE_RXN_P, A15 PCIE_TXN_P, A16 MIPI_DSI1_D0_P (io), A17 MIPI_DSI1_D1_P (io), A18 MIPI_DSI1_CLK_P (io), A19 MIPI_DSI1_D2_P (io), A20 MIPI_DSI1_D3_P (io), A21 MIPI_CSI2_D3_P (io), A22 MIPI_CSI2_D2_P (io), A23 MIPI_CSI2_CLK_P (io), A24 MIPI_CSI2_D1_P (io), A25 MIPI_CSI2_D0_P (io), A26 LVDS1_D0_P (io), A27 LVDS1_D1_P (io), A28 LVDS1_CLK_P (io), A29 VSS, AA1 DRAM_DQS2_N (io), AA2 DRAM_DQS2_P (io), AA3 VSS, AA4 DRAM_AC20 (io), AA5 DRAM_AC21 (io), AA6 DRAM_AC22 (io), AA7 VSS, AA8 NVCC_DRAM (power), AB1 DRAM_DQ17 (io), AB2 DRAM_DM2 (io), AB8 VSS, AC1 DRAM_DQ16 (io), AC2 DRAM_DQ22 (io), AC3 VSS, AC4 DRAM_AC37 (io), AC5 DRAM_AC38 (io), AC6 VSS, AC8 I2C1_SCL (io), AD1 DRAM_DQ23 (io), AD2 DRAM_DQ27 (io), AD6 UART1_RXD (io), AD8 I2C4_SDA (io), AE1 DRAM_DQ26 (io), AE2 DRAM_DQ28 (io), AE3 VSS, AE4 DRAM_AC30 (io), AE6 UART3_RXD (io), AE8 I2C2_SDA (io), AF1 DRAM_DQS3_N (io), AF2 DRAM_DQS3_P (io), AF4 DRAM_AC31 (io), AF6 UART2_RXD (io), AF8 I2C4_SCL (io), AG1 DRAM_DQ29 (io), AG2 DRAM_DQ30 (io), AG4 VSS, AG6 VSS, AG8 VSS, AH1 DRAM_DQ31 (io), AH2 DRAM_DM3 (io), AH3 DRAM_DQ24 (io), AH4 UART2_TXD (io), AH5 UART4_TXD (io), AH6 I2C2_SCL (io), AH7 I2C1_SDA (io), AH8 SAI1_RXC (io), AH9 SAI1_RXD2 (io), AJ1 VSS, AJ2 DRAM_DQ25 (io), AJ3 UART1_TXD (io), AJ4 UART3_TXD (io), U2 DRAM_AC35 (io), U3 VSS, U4 DRAM_AC23 (io), U5 DRAM_AC32 (io), U6 DRAM_AC33 (io), U7 VSS, U8 NVCC_DRAM (power), U9 VDD_SOC (power), V1 DRAM_AC25 (io), V2 DRAM_AC24 (io), W1 DRAM_DQ21 (io), W2 DRAM_DQ18 (io), W3 VSS, W4 DRAM_AC28 (io), W5 DRAM_AC29 (io), W6 DRAM_AC36 (io), W7 VSS, W8 NVCC_DRAM (power), W9 VDD_SOC (power), Y1 DRAM_DQ20 (io), Y2 DRAM_DQ19 (io)
part C pins: AJ5 UART4_RXD (io), AJ6 I2C3_SDA (io), AJ7 I2C3_SCL (io), AJ8 SAI1_RXD3 (io), AJ9 SAI1_RXFS (io), B10 USB1_TX_N (io), B11 USB1_DNU (io), B12 USB2_RX_N (io), B13 USB2_TX_N (io), B14 PCIE_RXN_N, B15 PCIE_TXN_N, B16 MIPI_DSI1_D0_N (io), B17 MIPI_DSI1_D1_N (io), B18 MIPI_DSI1_CLK_N (io), B19 MIPI_DSI1_D2_N (io), B20 MIPI_DSI1_D3_N (io), B21 MIPI_CSI2_D3_N (io), B22 MIPI_CSI2_D2_N (io), B23 MIPI_CSI2_CLK_N (io), B24 MIPI_CSI2_D1_N (io), B25 MIPI_CSI2_D0_N (io), B26 LVDS1_D0_N (io), B27 LVDS1_D1_N (io), B28 LVDS1_CLK_N (io), B29 LVDS1_D2_P (io), C10 VSS, C12 VSS, C14 VSS, C16 VSS, C18 VSS, C20 VSS, C22 VSS, C24 VSS, C26 VSS, C28 LVDS1_D2_N (io), C29 LVDS1_D3_P (io), D10 USB1_D_P (io), D12 USB2_VBUS (io), D14 USB2_D_P (io), D16 PCIE_REF_PAD_CLK_P, D18 MIPI_CSI1_D0_P (io), D20 MIPI_CSI1_D1_P (io), D22 MIPI_CSI1_CLK_P (io), D24 MIPI_CSI1_D2_P (io), D26 MIPI_CSI1_D3_P (io), D28 LVDS1_D3_N (io), D29 LVDS0_D0_P (io), E10 USB1_D_N (io), E12 USB2_DNU (io), E14 USB2_D_N (io), E16 PCIE_REF_PAD_CLK_N, E18 MIPI_CSI1_D0_N (io), E20 MIPI_CSI1_D1_N (io), E22 MIPI_CSI1_CLK_N (io), E24 MIPI_CSI1_D2_N (io), E26 MIPI_CSI1_D3_N (io), E27 VSS, E28 LVDS0_D0_N (io), E29 LVDS0_D1_P (io), F10 USB1_TXRTUNE (io), F12 USB2_TXRTUNE (io), F14 JTAG_TDO, F16 PCIE_RESREF, F18 MIPI_VREG1_CAP, F20 VDD_MIPI_1P2_CAP (power), F22 PMIC_ON_REQ, F24 MIPI_TEST_DNU, F28 LVDS0_D1_N (io), F29 LVDS0_CLK_P (io), G10 BOOT_MODE0 (io), G12 BOOT_MODE3 (io), G14 JTAG_TMS, G16 JTAG_TDI, G18 JTAG_TCK, G20 JTAG_MOD, G22 ONOFF, G24 VSS, G25 XTALI_24M, G26 XTALO_24M, G27 VSS, G28 LVDS0_CLK_N (io), G29 LVDS0_D2_P (io), H10 VSS, H12 VSS, H14 VSS, H16 VSS, H18 VSS, H20 VSS, H22 VSS, H28 LVDS0_D2_N (io), H29 LVDS0_D3_P (io), J10 NVCC_DRAM (power)
part D pins: J11 NVCC_GPIO (power), J14 VDD_USB_3P3 (power), J16 PVCC0_1P8 (power), J19 VDD_USB_1P8 (power), J20 VDD_ANA0_1P8 (power), J22 VDD_LVDS_1P8 (power), J23 VSS, J24 PMIC_STBY_REQ, J25 RTC_XTALI, J26 RTC_XTALO, J27 VSS, J28 LVDS0_D3_N (io), J29 POR_B, K10 VDD_SOC (power), K11 NVCC_JTAG (power), K14 VDD_USB_0P8 (power), K15 VDD_PCI_0P8 (power), K16 VDD_MIPI_0P8 (power), K19 VDD_PCI_1P8 (power), K20 VDD_MIPI_1P8 (power), K28 CLKIN1 (in), K29 CLKOUT1 (out), L10 VDD_SOC (power), L11 VDD_SOC (power), L12 VDD_SOC (power), L13 VDD_SOC (power), L14 VSS, L16 VSS, L17 VDD_SOC (power), L18 VDD_SOC (power), L19 VDD_SOC (power), L20 VDD_SOC (power), L21 VDD_SOC (power), L22 VDD_24M_XTAL_1P8 (power), L23 VSS, L24 NAND_DATA02 (io), L25 NAND_DATA01 (io), L26 NAND_CE0_B (io), L27 VSS, L28 CLKIN2 (in), L29 CLKOUT2 (out), M11 VSS, M14 VDD_SOC (power), M16 VDD_SOC (power), M19 VSS, M28 NAND_CLE, M29 NAND_DATA06 (io), N10 VDD_SOC (power), N11 VSS, N12 VDD_SOC (power), N13 VDD_SOC (power), N14 VDD_SOC (power), N15 VDD_SOC (power), N16 VDD_SOC (power), N17 VDD_SOC (power), N18 VDD_SOC (power), N19 VSS, N20 VDD_SOC (power), N21 VDD_SOC (power), N22 VDD_ANA1_1P8 (power), N23 VSS, N24 NAND_DATA03 (io), N25 NAND_ALE, N26 VDD_SNVS_0P8_CAP (power), N27 VSS, N28 NAND_CE3_B (io), N29 NAND_DATA05 (io), P11 VSS, P14 VDD_SOC (power), P16 VDD_SOC (power), P19 VSS, P28 NAND_CE2_B (io), P29 NAND_DATA04 (io), R10 VDD_SOC (power), R11 VSS, R12 VSS, R13 VSS, R14 VSS, R16 VSS, R17 VSS, R18 VSS, R19 VSS, R20 VDD_SOC (power), R21 VDD_ANA1_0P8 (power), R22 NVCC_CLK (power), R23 VSS, R24 NVCC_SNVS_1P8 (power), R25 NAND_DATA00 (io), R26 NAND_DQS, R27 VSS, R28 NAND_RE_B, R29 NAND_DATA07 (io)
part E pins: AA10 NVCC_DRAM (power), AA11 NVCC_SAI2_SAI3_SPDIF (power), AA14 NVCC_ECSPI_HDMI (power), AA16 PVCC2_1P8 (power), AA19 PVCC1_1P8 (power), AA20 VDD_EARC_1P8 (power), AA22 VDD_HDMI_1P8 (power), AA23 VSS, AA24 NVCC_ENET (power), AA25 SD2_DATA3 (io), AA26 SD2_DATA2 (io), AA27 VSS, AA28 SD1_DATA6 (io), AA29 SD1_DATA5 (io), AB10 VSS, AB12 VSS, AB14 VSS, AB16 VSS, AB18 VSS, AB20 VSS, AB22 VSS, AB28 SD2_CMD (io), AB29 SD2_CLK (io), AC10 SAI1_RXD0 (io), AC12 SAI1_TXD6 (io), AC14 SAI5_RXFS (io), AC16 SAI3_TXFS (io), AC18 SPDIF_EXT_CLK, AC20 ECSPI1_MOSI (io), AC22 HDMI_DDC_SCL, AC24 VSS, AC25 ENET_TD0 (io), T11 VSS, T14 VDD_ARM (power), T16 VDD_ARM (power), T19 VSS, T28 NAND_READY_B, T29 NAND_CE1_B (io), U10 VDD_SOC (power), U11 VSS, U12 VDD_ARM (power), U13 VDD_ARM (power), U14 VDD_ARM (power), U15 VDD_ARM (power), U16 VDD_ARM (power), U17 VDD_ARM (power), U18 VSS, U19 VSS, U20 VDD_SOC (power), U21 VDD_SAI_PLL_0P8 (power), U22 NVCC_NAND (power), U23 VSS, U24 NVCC_SD1 (power), U25 SD1_DATA7 (io), U26 SD1_DATA4 (io), U27 VSS, U28 NAND_WE_B, U29 NAND_WP_B, V11 VSS, V14 VDD_ARM (power), V16 VDD_ARM (power), V19 VSS, V28 SD1_DATA3 (io), V29 SD1_DATA2 (io), W10 VDD_SOC (power), W11 VDD_SOC (power), W12 VDD_ARM (power), W13 VDD_ARM (power), W14 VSS, W16 VSS, W17 VDD_ARM (power), W18 VDD_SAI_PLL_1P8 (power), W19 VDD_AVPLL_1P8 (power), W20 VDD_SOC (power), W21 VDD_ARM_PLL_0P8 (power), W22 VDD_HDMI_0P8 (power), W23 VSS, W24 NVCC_SD2 (power), W25 SD1_RESET_B (io), W26 SD1_STROBE (io), W27 VSS, W28 SD1_CLK (io), W29 SD1_CMD (io), Y10 NVCC_I2C_UART (power), Y11 NVCC_SAI1_SAI5 (power), Y14 VDD_ARM (power), Y15 VDD_ARM (power), Y16 VDD_ARM (power), Y19 VDD_ARM_PLL_1P8 (power), Y20 VDD_ANA2_1P8 (power), Y28 SD1_DATA1 (io), Y29 SD1_DATA0 (io)
part F pins: AC26 SD2_WP (io), AC27 VSS, AC28 SD2_DATA0 (io), AC29 SD2_DATA1 (io), AD10 SAI1_RXD4 (io), AD12 SAI1_TXD3 (io), AD14 SAI5_RXC (io), AD16 SAI5_RXD1 (io), AD18 SPDIF_RX, AD20 ECSPI1_MISO (io), AD22 HDMI_CEC, AD24 ENET_TD3 (io), AD28 SD2_RESET_B (io), AD29 SD2_CD_B (io), AE10 SAI1_RXD5 (io), AE12 SAI1_MCLK (io), AE14 SAI5_RXD3 (io), AE16 SAI5_RXD0 (io), AE18 SPDIF_TX, AE20 ECSPI1_SS0 (io), AE22 HDMI_HPD, AE24 ENET_TXC, AE26 ENET_TD1 (io), AE27 VSS, AE28 ENET_RX_CTL, AE29 ENET_RXC, AF10 SAI1_RXD1 (io), AF12 SAI1_TXFS (io), AF14 SAI5_MCLK (io), AF16 SAI5_RXD2 (io), AF18 SAI3_RXD (io), AF20 ECSPI1_SCLK (io), AF22 HDMI_DDC_SDA, AF24 ENET_TX_CTL, AF26 ENET_TD2 (io), AF28 ENET_RD3 (io), AF29 ENET_RD2 (io), AG10 VSS, AG12 VSS, AG14 VSS, AG16 VSS, AG18 VSS, AG20 VSS, AG22 VSS, AG24 VSS, AG26 VSS, AG28 ENET_RD1 (io), AG29 ENET_RD0 (io), AH10 SAI1_RXD6 (io), AH11 SAI1_TXD2 (io), AH12 SAI1_RXD7 (io), AH13 SAI1_TXD4 (io), AH14 SAI1_TXD5 (io), AH15 SAI2_TXC (io), AH16 SAI2_TXD0 (io), AH17 SAI2_RXFS (io), AH18 SAI3_TXD (io), AH19 SAI3_TXC (io), AH20 ECSPI2_MISO (io), AH21 ECSPI2_SCLK (io), AH22 EARC_N_HPD, AH23 EARC_AUX, AH24 HDMI_TXC_P, AH25 HDMI_TX0_P (io), AH26 HDMI_TX1_P (io), AH27 HDMI_TX2_P (io), AH28 ENET_MDC, AH29 ENET_MDIO, AJ10 SAI1_TXD1 (io), AJ11 SAI1_TXD0 (io), AJ12 SAI1_TXC (io), AJ13 SAI1_TXD7 (io), AJ14 SAI2_RXD0 (io), AJ15 SAI2_MCLK (io), AJ16 SAI2_RXC (io), AJ17 SAI2_TXFS (io), AJ18 SAI3_RXC (io), AJ19 SAI3_RXFS (io), AJ20 SAI3_MCLK (io), AJ21 ECSPI2_MOSI (io), AJ22 ECSPI2_SS0 (io), AJ23 EARC_P_UTIL, AJ24 HDMI_TXC_N, AJ25 HDMI_TX0_N (io), AJ26 HDMI_TX1_N (io), AJ27 HDMI_TX2_N (io), AJ28 HDMI_REXT, AJ29 VSS
part A text: 1 of 6
part B text: 2 of 6
part C text: 3 of 6
part D text: 4 of 6
part E text: 5 of 6
part F text: 6 of 6

## NCP1117ST33T3G
designator IC?
IC REG LDO 3.3V 1A SOT223; Manufacturer: ON Semiconductor; Purpose Of Usage: BASIC; Supplier 1: Digi-Key; Manufacturer Part Number: NCP1117ST33T3G; RoHS: Yes; Category: INTEGRATED CIRCUITS; Mount: SMD; Case/Package: SOT-223; Package Quantity: 1; Lead Free: Lead Free; Supplier Part Number 1: NCP1117ST33T3GOSCT-ND; Sub-Category: PMIC - LINEAR REGULATOR; Stock ID: ??; Topology: LDO
footprint SOT223-3 (SOT223, 4-Leads, Body 6.50x7.00mm (avg), Pitch 2.30mm, IPC Medium Density)
pins: 1 GND, 2 Out, 3 In, 4 Out

## OC1120-0810VQFN8
designator IC?
eSIM; Manufacturer: Infineon; Purpose Of Usage: BASIC; Manufacturer Part Number: OC1120-0810VQFN8; RoHS: No; Supplier Part Number 1: OC1120-0810VQFN8; Case/Package: PG-VQFN-8-4; Category: INTEGRATED CIRCUITS; Lead Free: Lead Free; Mount: SMD; Stock ID: ??; Sub-Category: eSIM; Supplier 1: Future
footprint PG-VQFN-8-4 (SOIC, 8-Leads, Body 4.90x3.90mm, Pitch 1.27mm, IPC Medium Density)
pins: 1 GND, 2 NC, 3 I/O, 4 NC, 5 NC, 6 CLK, 7 RST, 8 VDD

## PAM2401SCADJ
designator IC?
IC REG BOOST ADJ 3A SYNC 8MSOP; Manufacturer: Diodes; Purpose Of Usage: BASIC; Manufacturer Part Number: PAM2401SCADJ; RoHS: Yes; Category: INTEGRATED CIRCUITS; Case/Package: MSOP; Lead Free: Lead Free; Local Supplier: OZDISAN; Mount: SMD; Price 10K: 0.75; Stock ID: ??; Sub-Category: PMIC - DC/DC Switching Regulator; Supplier 1: Digi-Key; Supplier Part Number 1: PAM2401SCADJDICT-ND; Topology: BOOST
footprint MSOP-08 (TSOP, 8-Leads, Body 2.95x2.95mm, Pitch 0.65mm, IPC Medium Density)
pins: 1 LX, 2 EN, 3 VIN, 4 AGND, 5 FB, 6 RST, 7 OUT, 8 PGND

## PAM8302AASCR
designator IC?
IC AMP AUDIO 2.5W CLASS D 8MSOP; Manufacturer: Diodes; Purpose Of Usage: BASIC; Supplier 1: Digi-Key; Manufacturer Part Number: PAM8302AASCR; RoHS: Yes; Sub-Category: AMPLIFIER-AUDIO; Stock 1: 126713; Case/Package: MSOP; Package Quantity: 2500; Lead Free: Lead Free; Supplier Part Number 1: PAM8302AASCRDICT-ND; Category: INTEGRATED CIRCUITS; Mount: SMD; Stock ID: ??; Local Supplier: FUTURE; Price 10K: 0.17
footprint MSOP-08 (TSOP, 8-Leads, Body 2.95x2.95mm, Pitch 0.65mm, IPC Medium Density)
pins: 1 SD, 2 NC, 3 IN+, 4 IN-, 5 VO+ (power), 6 VDD (power), 7 GND (power), 8 VO- (power)

## PCA9306DCUR
designator IC?
TEXAS INSTRUMENTS - PCA9306DCUR - 2 BIT VOLTAGE LEVEL TRANSLATOR VSSOP8; Purpose Of Usage: BASIC; Supplier 1: Digi-Key; Supplier Part Number 1: 296-17988-1-ND; Manufacturer: Texas Instruments; Manufacturer Part Number: PCA9306DCUR; Stock 1: 19235; RoHS: Yes; Case/Package: VSSOP; Package Quantity: 1; Lead Free: Lead Free; Category: INTEGRATED CIRCUITS; Sub-Category: LEVEL SHIFTER; Mount: SMD; Stock ID: ??
footprint SOP50P310X90-8N
pins: 1 GND, 2 VREF1, 3 SCL, 4 SDA, 5 SDA, 6 SCL, 7 VREF2, 8 EN

## PCF8563T/5,518
designator IC?
Real Time Clock Serial 8-Pin SO T/R; Manufacturer: NXP Semiconductors; Purpose Of Usage: BASIC; Supplier 1: Digi-Key; Manufacturer Part Number: PCF8563T/5,518; Stock 1: 3911; RoHS: Yes; Mount: SMD; Case/Package: SOIC; Package Quantity: 2500; Lead Free: Lead Free; Category: INTEGRATED CIRCUITS; Supplier Part Number 1: 568-6650-1-ND; Sub-Category: REAL TIME CLOCK; Stock ID: ??
footprint SOIC127P600X175-8N (SOIC, 8-Leads, Body 4.90x3.90mm, Pitch 1.27mm, IPC Medium Density)
pins: 1 OSCI, 2 OSCO, 3 INT, 4 GND, 5 SDA, 6 SCL, 7 CLKOUT, 8 VDD

## PCF8574DGVR
designator IC?
8-bit 2.5- to 5.5-V I2C/SMBus I/O expander with interrupt 20-TVSOP -40 to 85; Manufacturer: Texas Instruments; Purpose Of Usage: BASIC; Supplier 1: Digi-Key; Manufacturer Part Number: PCF8574DGVR; Stock 1: 34; Mount: SMD; Case/Package: TFSOP; Package Quantity: 1; Lead Free: Lead Free; Supplier Part Number 1: 296-17364-1-ND; Category: INTEGRATED CIRCUITS; Sub-Category: PORT EXPANDER; RoHS: Yes; Stock ID: ??
footprint DGV20
pins: 1 INT, 2 SCL, 3 NC, 4 SDA, 5 VCC, 6 A0, 7 A1, 8 NC, 9 A2, 10 P0, 11 P1, 12 P2, 13 NC, 14 P3, 15 GND, 16 P4, 17 P5, 18 NC, 19 P6, 20 P7

## PCF85063AT/AY
designator IC?
IC RTC CLK/CALENDAR I2C 8SO; Manufacturer: NXP Semiconductors; Purpose Of Usage: BASIC; Manufacturer Part Number: PCF85063AT/AY; RoHS: Yes; Category: INTEGRATED CIRCUITS; Case/Package: SOIC; Min Operating Temperature: -40°C; Max Operating Temperature: 85°C; Lead Free: Lead Free; LCSC Part Number: C2669637; Mount: SMD; Stock ID: ??; Sub-Category: REAL TIME CLOCK; Supplier 1: Digi-Key; Supplier Part Number 1: 568-12403-1-ND
footprint SOIC127P600X175-8N (SOIC, 8-Leads, Body 4.90x3.90mm, Pitch 1.27mm, IPC Medium Density)
pins: 1 OSCI, 2 OSCO, 3 INT, 4 GND, 5 SDA, 6 SCL, 7 CLKOUT, 8 VDD

## PCF85063ATL/1,118
designator IC?
PCF85063ATL/1,118  REAL TIME CLOCK/CALENDAR, BINARY, HXSON; Manufacturer: NXP Semiconductors; Purpose Of Usage: BASIC; Supplier 1: Digi-Key; Manufacturer Part Number: PCF85063ATL/1,118; Stock 1: 43945; RoHS: Yes; Mount: SMD; Case/Package: DFN EP; Package Quantity: 4000; Lead Free: Lead Free; Supplier Part Number 1: 568-10235-1-ND; Category: INTEGRATED CIRCUITS; Sub-Category: REAL TIME CLOCK; Stock ID: ??
footprint DFN2626-10
pins: 1 OSCI, 2 OSCO, 3 CLKOE, 4 INT, 5 GND, 6 SDA, 7 SCL, 8 NC, 9 CLKOUT, 10 VDD, 11 EXP

## PCF85063ATT/AJ
designator IC?
Real time clock, TSSOP-8,; Manufacturer: NXP Semiconductors; Purpose Of Usage: BASIC; Supplier 1: Digi-Key; Supplier Part Number 1: 568-12404-1-ND; Manufacturer Part Number: PCF85063ATT/AJ; Stock 1: 34322; RoHS: Yes; Mount: SMD; Case/Package: TSSOP; Lead Free: Lead Free; Category: INTEGRATED CIRCUITS; Sub-Category: REAL TIME CLOCK; Stock ID: ??
footprint SOT505-1
pins: 1 OSCI, 2 OSCO, 3 INT, 4 GND, 5 SDA, 6 SCL, 7 CLKOUT, 8 VDD

## PI3USB221EZUAEX
designator IC?
Analog Multiplexer Single 1: 2 10-Pin UQFN T/R; Manufacturer: Diodes Inc.; Purpose Of Usage: BASIC; Supplier 1: Digi-Key; Manufacturer Part Number: PI3USB221EZUAEX; Category: INTEGRATED CIRCUITS; Supplier Part Number 1: PI3USB221EZUAEXDITR-ND; Case/Package: UDFN2015-10; Lead Free: Lead Free; Mount: SMD; RoHS: Yes; Stock ID: ??; Sub-Category: USB SWITCH
footprint UQFN2015-10 (SON, 6-Leads, Body 1.98x1.98mm, Pitch 0.65mm, Thermal Pad 1.60x0.91mm, IPC Medium Density)
pins: 1 1D+, 2 1D-, 3 2D+, 4 2D-, 5 GND, 6 ~{OE}, 7 D-, 8 D+, 9 S, 10 VCC

## PN5180A0HN/C4E
designator IC?
NFC Read/Write 13.56 MHz 2.7V to 5.5V 40-Pin HVQFN Tray; Manufacturer: NXP Semiconductors; Purpose Of Usage: BASIC; Supplier 1: Digi-Key; Manufacturer Part Number: PN5180A0HN/C4E; RoHS: Yes; Supplier Part Number 1: 568-PN5180A0HN/C4E-ND; Category: INTEGRATED CIRCUITS; Sub-Category: NFC Driver; Case/Package: QFN; Lead Free: Lead Free; Mount: SMD; Stock ID: ??; Local Supplier: AVNET; Price 10K: 2.7
footprint HVQFN40 SOT618-1 (QFN, 40-Leads, Body 6.00x6.00mm, Pitch 0.50mm, Thermal Pad 4.10x4.10mm, IPC Medium Density)
pins: 1 NSS, 2 AUX2/DWL_REQ, 3 MOSI, 4 PVSS, 5 MISO, 6 PVDD, 7 SCK, 8 BUSY, 9 VSS, 10 RESET_N, 11 N.C., 12 VBAT, 13 VBAT, 14 N.C./LDO_OUT, 15 RXN, 16 RXP, 17 VMID, 18 TX2, 19 TVSS, 20 N.C., 21 TX1, 22 TVDD, 23 ANT1, 24 ANT2, 25 VDHF, 26 VBAT, 27 VSS, 28 AVDD, 29 VDD, 30 DVDD, 31 N.C., 32 N.C., 33 N.C., 34 N.C., 35 N.C., 36 CLK1, 37 CLK2, 38 GPO1, 39 IRQ, 40 AUX1, 41 VSS

## RT6150BGQW
designator IC?
RT6150B Series 1.8 V 800 mA 1 Out ADJ Buck-Boost Switching Reg-10-WDFN; Manufacturer: Richtek; Purpose Of Usage: BASIC; Supplier 1: Digi-Key; Manufacturer Part Number: RT6150BGQW; RoHS: Yes; Category: INTEGRATED CIRCUITS; Stock 1: 6000; Topology: Buck-Boost; Lead Free: Lead Free; Supplier Part Number 1: 1028-1260-2-ND; Case/Package: WSON-10; Local Supplier: FUTURE; Mount: SMD; Package Quantity: 10; Price 10K: 0.35; Stock ID: ??; Sub-Category: PMIC - DC/DC Switching Regulator
footprint WSON-10
pins: 1 VOUT, 2 L2, 3 PGND, 4 L1, 5 VIN, 6 EN, 7 PS, 8 VINA, 9 GND, 10 FB, 11 GND

## RT9742SNGV
designator IC?
Power Switch/Driver 1:1 N-Channel 500mA SOT-23-3; Manufacturer: Diodes; Manufacturer Part Number: AP22653W6-7; Purpose Of Usage: BASIC; Supplier 1: Digi-Key; Stock 1: 12659; RoHS: No; Supplier Part Number 1: RT9742SNGVCT-ND; Category: INTEGRATED CIRCUITS; Sub-Category: POWER SWITCH; Mount: SMD; Case/Package: SOT-23-6; Lead Free: Lead Free; Stock ID: ??
footprint SOT23-6
pins: 1 IN, 2 GND, 3 EN, 4 FAULT, 5 ILIM, 6 OUT

## Si8640BB-B-IS1R
designator IC?
Digital Isolators Quad Ch 1.0kV Isltr 150M 4/0 NB SOIC16; Manufacturer: Silicon Labs; Purpose Of Usage: BASIC; Supplier 1: Digi-Key; Manufacturer Part Number: Si8640BB-B-IS1R; Stock 1: 0; RoHS: Yes; Case/Package: SOIC; Package Quantity: 2500; Supplier Part Number 1: 336-5211-1-ND; Category: INTEGRATED CIRCUITS; Mount: SMD; Sub-Category: ISOLATOR; Lead Free: Lead Free; Stock ID: ??
footprint SO16
pins: 1 VDD1, 2 GND1, 3 I1, 4 I2, 5 I3, 6 I4, 7 NC, 8 GND1, 9 GND2, 10 EN2, 11 O4, 12 O3, 13 O2, 14 O1, 15 GND2, 16 VDD2

## SI8641BA-C-IUR
designator IC?
General Purpose tal Isolator 1000Vrms 4 Channel 150Mbps 35kV/µs CMTI 16-SSOP (0.154 , 3.90mm Width); Manufacturer: Silicon Labs; Purpose Of Usage: BASIC; Supplier 1: Digi-Key; Manufacturer Part Number: SI8641BA-C-IUR; Stock 1: 611; RoHS: Yes; Case/Package: SSOP; Supplier Part Number 1: 336-4939-1-ND; Category: INTEGRATED CIRCUITS; Mount: SMD; Sub-Category: ISOLATOR; Lead Free: Lead Free; Stock ID: ??
footprint QSOP16
pins: 1 VDD1, 2 GND1, 3 I1, 4 I2, 5 I3, 6 O4, 7 EN1, 8 GND1, 9 GND2, 10 EN2, 11 I4, 12 O3, 13 O2, 14 O1, 15 GND2, 16 VDD2

## Si8641BB-B-IS1R
designator IC?
Low Power Quad Channel Digital Isolator 16-Pin SOIC N T/R; Manufacturer: Silicon Labs; Purpose Of Usage: BASIC; Supplier 1: Digi-Key; Manufacturer Part Number: Si8641BB-B-IS1R; Stock 1: 2155; RoHS: Yes; Case/Package: SOIC; Package Quantity: 2500; Supplier Part Number 1: 336-4356-1-ND; Category: INTEGRATED CIRCUITS; Mount: SMD; Sub-Category: ISOLATOR; Lead Free: Lead Free; Stock ID: ??
footprint SO16
pins: 1 VDD1, 2 GND1, 3 I1, 4 I2, 5 I3, 6 O4, 7 EN1, 8 GND1, 9 GND2, 10 EN2, 11 I4, 12 O3, 13 O2, 14 O1, 15 GND2, 16 VDD2

## SI8645BA-B-IUR
designator IC?
Digital Isolator CMOS 4-CH 150Mbps Automotive 16-Pin QSOP T/R; Manufacturer: Silicon Labs; Purpose Of Usage: BASIC; Supplier 1: Digi-Key; Manufacturer Part Number: SI8645BA-B-IUR; Stock 1: 4650; RoHS: Yes; Case/Package: QSOP; Package Quantity: 2500; Supplier Part Number 1: SI8645BA-B-IURCT-ND; Category: INTEGRATED CIRCUITS; Mount: SMD; Sub-Category: ISOLATOR; Lead Free: Lead Free; Stock ID: ??
footprint QSOP16
pins: 1 VDD1, 2 GND1, 3 I1, 4 I2, 5 I3, 6 I4, 7 NC, 8 GND1, 9 GND2, 10 NC, 11 O4, 12 O3, 13 O2, 14 O1, 15 GND2, 16 VDD2

## Si8663AB-B-IS1
designator IC?
Digital Isolator CMOS 6-CH 1Mbps Automotive 16-Pin SOIC N Tube; Manufacturer: Silicon Labs; Purpose Of Usage: BASIC; Supplier 1: Digi-Key; Supplier Part Number 1: 336-4714-ND; Manufacturer Part Number: Si8663AB-B-IS1; Stock 1: 49; RoHS: Yes; Mount: SMD; Case/Package: SOIC; Package Quantity: 48; Category: INTEGRATED CIRCUITS; Sub-Category: ISOLATOR; Lead Free: Lead Free; Stock ID: ??
footprint SO16
pins: 1 VDDA, 2 I1, 3 I2, 4 I3, 5 O4, 6 O5, 7 O6, 8 GNDA, 9 GNDB, 10 I6, 11 I5, 12 I4, 13 O3, 14 O2, 15 O1, 16 VDDB

## SN74LVC1G04DBVR
designator IC?
Inverter 1-Element CMOS 5-Pin SOT-23 T/R; Manufacturer: Texas Instruments; Purpose Of Usage: BASIC; Supplier 1: Digi-Key; Manufacturer Part Number: SN74LVC1G04DBVR; Stock 1: 132873; RoHS: Yes; Mount: SMD; Case/Package: SOT-23; Package Quantity: 1; Lead Free: Lead Free; Category: INTEGRATED CIRCUITS; Supplier Part Number 1: 296-11599-1-ND; Sub-Category: LOGIC; Stock ID: ??
footprint SOT-23-5
pins: 1 NC (in), 2 A (in), 3 GND (power), 4 Y (out), 5 VCC (power)

## SN74LVC1G08DBVR
designator IC?
IC, AND GATE, SINGLE 2-INPUT, SMD; Manufacturer: Texas Instruments; Purpose Of Usage: BASIC; Supplier 1: Digi-Key; Manufacturer Part Number: SN74LVC1G08DBVR; Stock 1: 97419; RoHS: Yes; Mount: SMD; Case/Package: SOT-23; Package Quantity: 1; Lead Free: Lead Free; Category: INTEGRATED CIRCUITS; Supplier Part Number 1: 296-11601-1-ND; Sub-Category: LOGIC; Stock ID: ??
footprint DBV0005A_L
pins: 1 A (in), 2 B (in), 3 GND (power), 4 Y (out), 5 VCC (power)

## SN74LVC2G74DCUR
designator IC?
TEXAS INSTRUMENTS - SN74LVC2G74DCUR - Flipflop, 74LVC74, D, 4.1 ns, 200 MHz, 32 mA, VSSOP; Purpose Of Usage: BASIC; Supplier 1: Digi-Key; Manufacturer: Texas Instruments; Manufacturer Part Number: SN74LVC2G74DCUR; Stock 1: 17670; RoHS: Yes; Mount: SMD; Case/Package: VSSOP; Package Quantity: 3000; Lead Free: Lead Free; Supplier Part Number 1: 296-12755-1-ND; Category: INTEGRATED CIRCUITS; Sub-Category: LOGIC; Stock ID: ??
footprint VSSOP8
pins: 1 CLK, 2 D, 3 Q', 4 GND, 5 Q, 6 CLR, 7 PRE, 8 VCC

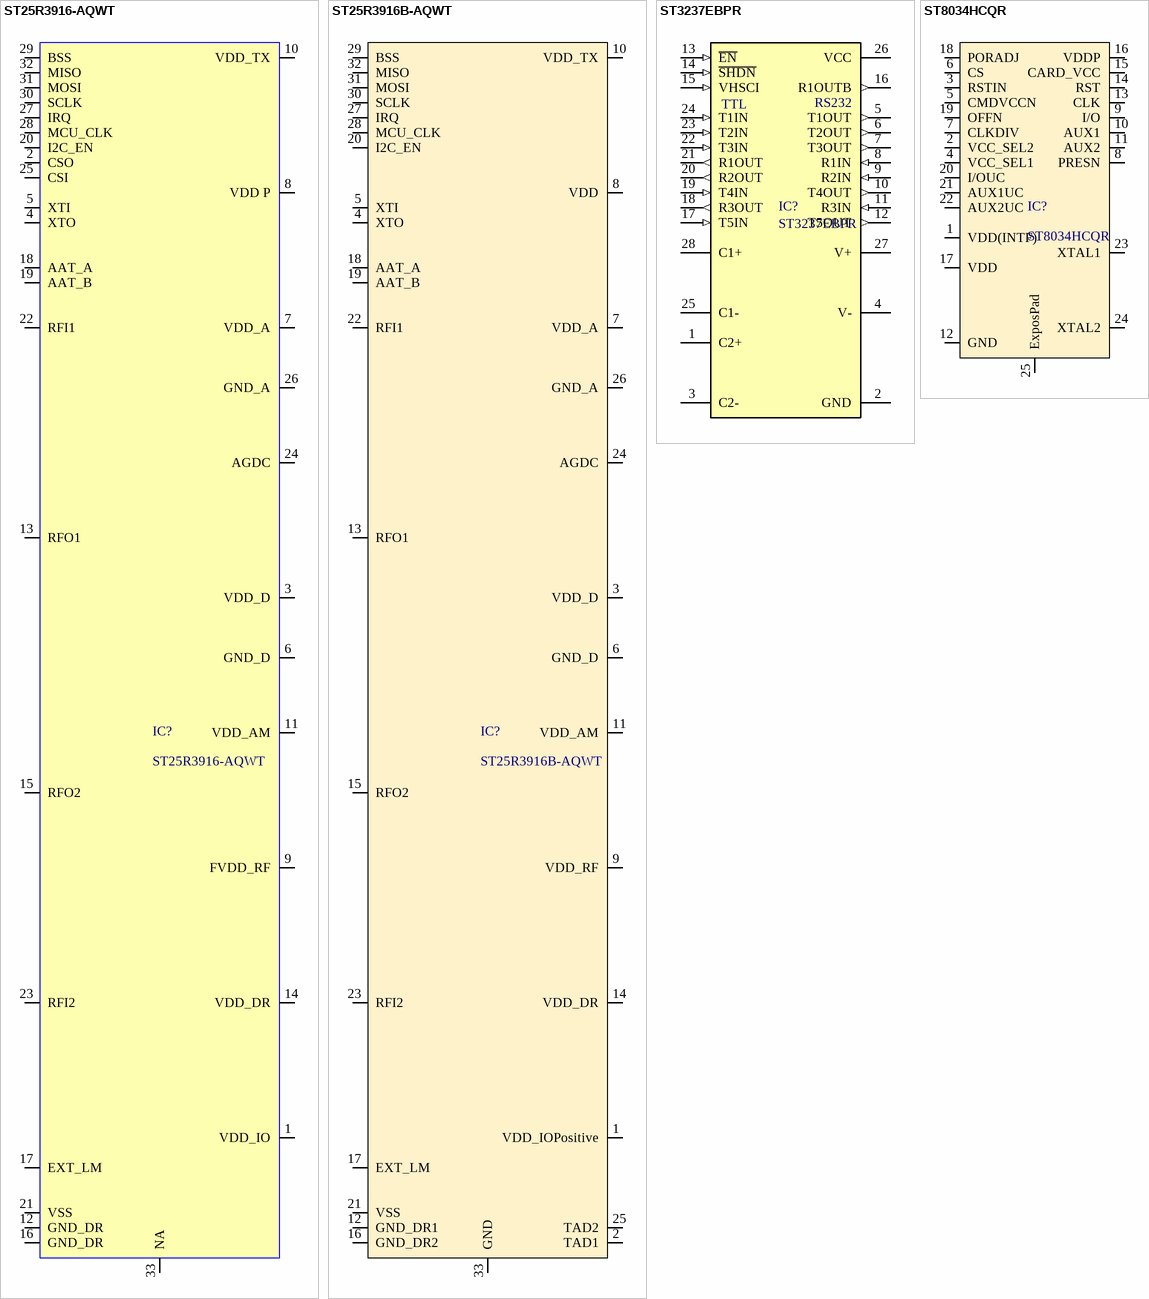
[diagram p5: symbols ST25R3916-AQWT to ST8034HCQR]